# Altium integrated library Lattice CPLD ispMACH.IntLib: 663 symbols (part 31 of 48)
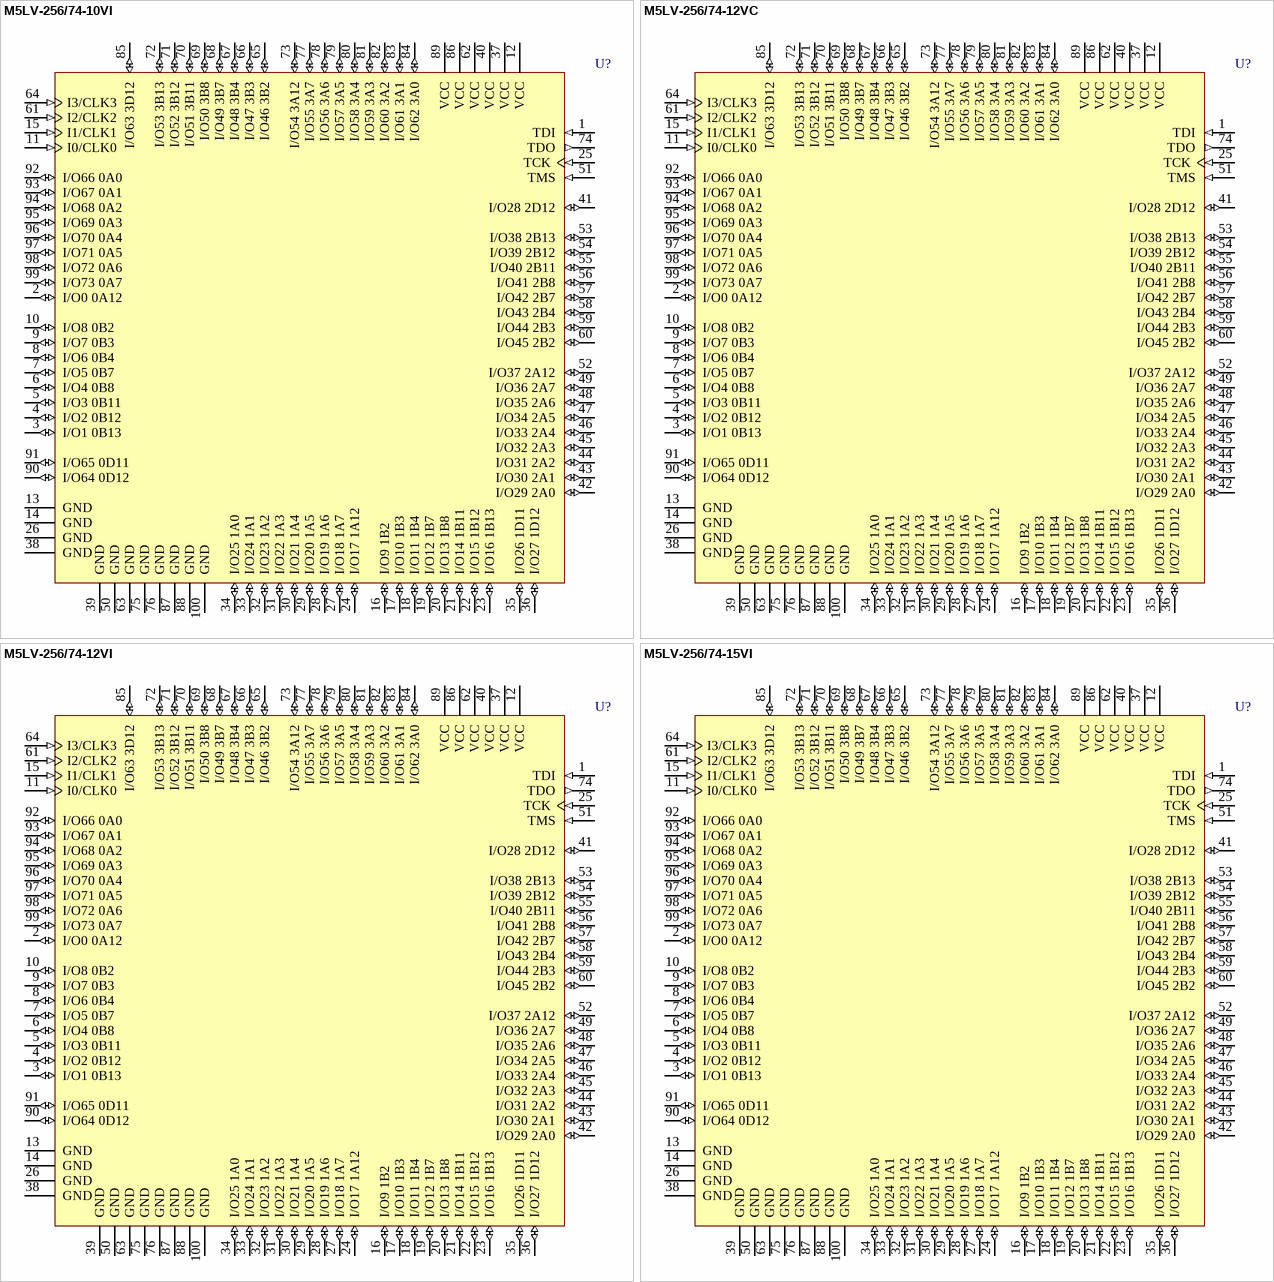
[diagram p336: symbols M5LV-256/74-10VI to M5LV-256/74-15VI]

## M5LV-256/74-10VI
designator U?
High-Density and High-I/O Complex PLD; Published: 23-Sep-2002; LatestRevisionDate: 13-Apr-2006; LatestRevisionNote: IPC-7351 Footprint Added.; DatasheetVersion: Sep-2000; PackageVersion: pkg_32, Aug-2005; PackageReference: TQFP100; Publisher: Altium Limited; PackageDescription: 100-Pin Thin Quad Flat Pack (TQFP100); Code_JEDEC: MS-026-BED; ComponentLink1Description: Manufacturer Link; ComponentLink1URL: http://www.latticesemi.com/products/mature/index.cfm; ComponentLink2Description: Datasheet; ComponentLink2URL: http://www.latticesemi.com/lit/docs/datasheets/cpld/mach5.pdf
footprint TQFP100_N (Thin QFP, 100-Leads, Body 14x14mm, Pitch 0.5mm, IPC Medium Density)
footprint TQFP100_L (Thin QFP, 100-Leads, Body 14x14mm, Pitch 0.5mm, IPC High Density)
footprint TQFP100_M (Thin QFP, 100-Leads, Body 14x14mm, Pitch 0.5mm, IPC Low Density)
3D model M5LV-TQFP100 (100-Pin Thin Quad Flat Pack (TQFP100))
pins: 1 TDI (in), 2 I/O0 0A12 (io), 3 I/O1 0B13 (io), 4 I/O2 0B12 (io), 5 I/O3 0B11 (io), 6 I/O4 0B8 (io), 7 I/O5 0B7 (io), 8 I/O6 0B4 (io), 9 I/O7 0B3 (io), 10 I/O8 0B2 (io), 11 I0/CLK0 (in), 12 VCC (power), 13 GND (power), 14 GND (power), 15 I1/CLK1 (in), 16 I/O9 1B2 (io), 17 I/O10 1B3 (io), 18 I/O11 1B4 (io), 19 I/O12 1B7 (io), 20 I/O13 1B8 (io), 21 I/O14 1B11 (io), 22 I/O15 1B12 (io), 23 I/O16 1B13 (io), 24 I/O17 1A12 (io), 25 TCK (in), 26 GND (power), 27 I/O18 1A7 (io), 28 I/O19 1A6 (io), 29 I/O20 1A5 (io), 30 I/O21 1A4 (io), 31 I/O22 1A3 (io), 32 I/O23 1A2 (io), 33 I/O24 1A1 (io), 34 I/O25 1A0 (io), 35 I/O26 1D11 (io), 36 I/O27 1D12 (io), 37 VCC (power), 38 GND (power), 39 GND (power), 40 VCC (power), 41 I/O28 2D12 (io), 42 I/O29 2A0 (io), 43 I/O30 2A1 (io), 44 I/O31 2A2 (io), 45 I/O32 2A3 (io), 46 I/O33 2A4 (io), 47 I/O34 2A5 (io), 48 I/O35 2A6 (io), 49 I/O36 2A7 (io), 50 GND (power), 51 TMS (in), 52 I/O37 2A12 (io), 53 I/O38 2B13 (io), 54 I/O39 2B12 (io), 55 I/O40 2B11 (io), 56 I/O41 2B8 (io), 57 I/O42 2B7 (io), 58 I/O43 2B4 (io), 59 I/O44 2B3 (io), 60 I/O45 2B2 (io), 61 I2/CLK2 (in), 62 VCC (power), 63 GND (power), 64 I3/CLK3 (in), 65 I/O46 3B2 (io), 66 I/O47 3B3 (io), 67 I/O48 3B4 (io), 68 I/O49 3B7 (io), 69 I/O50 3B8 (io), 70 I/O51 3B11 (io), 71 I/O52 3B12 (io), 72 I/O53 3B13 (io), 73 I/O54 3A12 (io), 74 TDO (out), 75 GND (power), 76 GND (power), 77 I/O55 3A7 (io), 78 I/O56 3A6 (io), 79 I/O57 3A5 (io), 80 I/O58 3A4 (io), 81 I/O59 3A3 (io), 82 I/O60 3A2 (io), 83 I/O61 3A1 (io), 84 I/O62 3A0 (io), 85 I/O63 3D12 (io), 86 VCC (power), 87 GND (power), 88 GND (power), 89 VCC (power), 90 I/O64 0D12 (io), 91 I/O65 0D11 (io), 92 I/O66 0A0 (io), 93 I/O67 0A1 (io), 94 I/O68 0A2 (io), 95 I/O69 0A3 (io), 96 I/O70 0A4 (io), 97 I/O71 0A5 (io), 98 I/O72 0A6 (io), 99 I/O73 0A7 (io), 100 GND (power)

## M5LV-256/74-12VC
designator U?
High-Density and High-I/O Complex PLD; Published: 23-Sep-2002; LatestRevisionDate: 13-Apr-2006; LatestRevisionNote: IPC-7351 Footprint Added.; DatasheetVersion: Sep-2000; PackageVersion: pkg_32, Aug-2005; PackageReference: TQFP100; Publisher: Altium Limited; PackageDescription: 100-Pin Thin Quad Flat Pack (TQFP100); Code_JEDEC: MS-026-BED; ComponentLink1Description: Manufacturer Link; ComponentLink1URL: http://www.latticesemi.com/products/mature/index.cfm; ComponentLink2Description: Datasheet; ComponentLink2URL: http://www.latticesemi.com/lit/docs/datasheets/cpld/mach5.pdf
footprint TQFP100_N (Thin QFP, 100-Leads, Body 14x14mm, Pitch 0.5mm, IPC Medium Density)
footprint TQFP100_L (Thin QFP, 100-Leads, Body 14x14mm, Pitch 0.5mm, IPC High Density)
footprint TQFP100_M (Thin QFP, 100-Leads, Body 14x14mm, Pitch 0.5mm, IPC Low Density)
3D model M5LV-TQFP100 (100-Pin Thin Quad Flat Pack (TQFP100))
pins: 1 TDI (in), 2 I/O0 0A12 (io), 3 I/O1 0B13 (io), 4 I/O2 0B12 (io), 5 I/O3 0B11 (io), 6 I/O4 0B8 (io), 7 I/O5 0B7 (io), 8 I/O6 0B4 (io), 9 I/O7 0B3 (io), 10 I/O8 0B2 (io), 11 I0/CLK0 (in), 12 VCC (power), 13 GND (power), 14 GND (power), 15 I1/CLK1 (in), 16 I/O9 1B2 (io), 17 I/O10 1B3 (io), 18 I/O11 1B4 (io), 19 I/O12 1B7 (io), 20 I/O13 1B8 (io), 21 I/O14 1B11 (io), 22 I/O15 1B12 (io), 23 I/O16 1B13 (io), 24 I/O17 1A12 (io), 25 TCK (in), 26 GND (power), 27 I/O18 1A7 (io), 28 I/O19 1A6 (io), 29 I/O20 1A5 (io), 30 I/O21 1A4 (io), 31 I/O22 1A3 (io), 32 I/O23 1A2 (io), 33 I/O24 1A1 (io), 34 I/O25 1A0 (io), 35 I/O26 1D11 (io), 36 I/O27 1D12 (io), 37 VCC (power), 38 GND (power), 39 GND (power), 40 VCC (power), 41 I/O28 2D12 (io), 42 I/O29 2A0 (io), 43 I/O30 2A1 (io), 44 I/O31 2A2 (io), 45 I/O32 2A3 (io), 46 I/O33 2A4 (io), 47 I/O34 2A5 (io), 48 I/O35 2A6 (io), 49 I/O36 2A7 (io), 50 GND (power), 51 TMS (in), 52 I/O37 2A12 (io), 53 I/O38 2B13 (io), 54 I/O39 2B12 (io), 55 I/O40 2B11 (io), 56 I/O41 2B8 (io), 57 I/O42 2B7 (io), 58 I/O43 2B4 (io), 59 I/O44 2B3 (io), 60 I/O45 2B2 (io), 61 I2/CLK2 (in), 62 VCC (power), 63 GND (power), 64 I3/CLK3 (in), 65 I/O46 3B2 (io), 66 I/O47 3B3 (io), 67 I/O48 3B4 (io), 68 I/O49 3B7 (io), 69 I/O50 3B8 (io), 70 I/O51 3B11 (io), 71 I/O52 3B12 (io), 72 I/O53 3B13 (io), 73 I/O54 3A12 (io), 74 TDO (out), 75 GND (power), 76 GND (power), 77 I/O55 3A7 (io), 78 I/O56 3A6 (io), 79 I/O57 3A5 (io), 80 I/O58 3A4 (io), 81 I/O59 3A3 (io), 82 I/O60 3A2 (io), 83 I/O61 3A1 (io), 84 I/O62 3A0 (io), 85 I/O63 3D12 (io), 86 VCC (power), 87 GND (power), 88 GND (power), 89 VCC (power), 90 I/O64 0D12 (io), 91 I/O65 0D11 (io), 92 I/O66 0A0 (io), 93 I/O67 0A1 (io), 94 I/O68 0A2 (io), 95 I/O69 0A3 (io), 96 I/O70 0A4 (io), 97 I/O71 0A5 (io), 98 I/O72 0A6 (io), 99 I/O73 0A7 (io), 100 GND (power)

## M5LV-256/74-12VI
designator U?
High-Density and High-I/O Complex PLD; Published: 23-Sep-2002; LatestRevisionDate: 13-Apr-2006; LatestRevisionNote: IPC-7351 Footprint Added.; DatasheetVersion: Sep-2000; PackageVersion: pkg_32, Aug-2005; PackageReference: TQFP100; Publisher: Altium Limited; PackageDescription: 100-Pin Thin Quad Flat Pack (TQFP100); Code_JEDEC: MS-026-BED; ComponentLink1Description: Manufacturer Link; ComponentLink1URL: http://www.latticesemi.com/products/mature/index.cfm; ComponentLink2Description: Datasheet; ComponentLink2URL: http://www.latticesemi.com/lit/docs/datasheets/cpld/mach5.pdf
footprint TQFP100_N (Thin QFP, 100-Leads, Body 14x14mm, Pitch 0.5mm, IPC Medium Density)
footprint TQFP100_L (Thin QFP, 100-Leads, Body 14x14mm, Pitch 0.5mm, IPC High Density)
footprint TQFP100_M (Thin QFP, 100-Leads, Body 14x14mm, Pitch 0.5mm, IPC Low Density)
3D model M5LV-TQFP100 (100-Pin Thin Quad Flat Pack (TQFP100))
pins: 1 TDI (in), 2 I/O0 0A12 (io), 3 I/O1 0B13 (io), 4 I/O2 0B12 (io), 5 I/O3 0B11 (io), 6 I/O4 0B8 (io), 7 I/O5 0B7 (io), 8 I/O6 0B4 (io), 9 I/O7 0B3 (io), 10 I/O8 0B2 (io), 11 I0/CLK0 (in), 12 VCC (power), 13 GND (power), 14 GND (power), 15 I1/CLK1 (in), 16 I/O9 1B2 (io), 17 I/O10 1B3 (io), 18 I/O11 1B4 (io), 19 I/O12 1B7 (io), 20 I/O13 1B8 (io), 21 I/O14 1B11 (io), 22 I/O15 1B12 (io), 23 I/O16 1B13 (io), 24 I/O17 1A12 (io), 25 TCK (in), 26 GND (power), 27 I/O18 1A7 (io), 28 I/O19 1A6 (io), 29 I/O20 1A5 (io), 30 I/O21 1A4 (io), 31 I/O22 1A3 (io), 32 I/O23 1A2 (io), 33 I/O24 1A1 (io), 34 I/O25 1A0 (io), 35 I/O26 1D11 (io), 36 I/O27 1D12 (io), 37 VCC (power), 38 GND (power), 39 GND (power), 40 VCC (power), 41 I/O28 2D12 (io), 42 I/O29 2A0 (io), 43 I/O30 2A1 (io), 44 I/O31 2A2 (io), 45 I/O32 2A3 (io), 46 I/O33 2A4 (io), 47 I/O34 2A5 (io), 48 I/O35 2A6 (io), 49 I/O36 2A7 (io), 50 GND (power), 51 TMS (in), 52 I/O37 2A12 (io), 53 I/O38 2B13 (io), 54 I/O39 2B12 (io), 55 I/O40 2B11 (io), 56 I/O41 2B8 (io), 57 I/O42 2B7 (io), 58 I/O43 2B4 (io), 59 I/O44 2B3 (io), 60 I/O45 2B2 (io), 61 I2/CLK2 (in), 62 VCC (power), 63 GND (power), 64 I3/CLK3 (in), 65 I/O46 3B2 (io), 66 I/O47 3B3 (io), 67 I/O48 3B4 (io), 68 I/O49 3B7 (io), 69 I/O50 3B8 (io), 70 I/O51 3B11 (io), 71 I/O52 3B12 (io), 72 I/O53 3B13 (io), 73 I/O54 3A12 (io), 74 TDO (out), 75 GND (power), 76 GND (power), 77 I/O55 3A7 (io), 78 I/O56 3A6 (io), 79 I/O57 3A5 (io), 80 I/O58 3A4 (io), 81 I/O59 3A3 (io), 82 I/O60 3A2 (io), 83 I/O61 3A1 (io), 84 I/O62 3A0 (io), 85 I/O63 3D12 (io), 86 VCC (power), 87 GND (power), 88 GND (power), 89 VCC (power), 90 I/O64 0D12 (io), 91 I/O65 0D11 (io), 92 I/O66 0A0 (io), 93 I/O67 0A1 (io), 94 I/O68 0A2 (io), 95 I/O69 0A3 (io), 96 I/O70 0A4 (io), 97 I/O71 0A5 (io), 98 I/O72 0A6 (io), 99 I/O73 0A7 (io), 100 GND (power)

## M5LV-256/74-15VI
designator U?
High-Density and High-I/O Complex PLD; Published: 23-Sep-2002; LatestRevisionDate: 13-Apr-2006; LatestRevisionNote: IPC-7351 Footprint Added.; DatasheetVersion: Sep-2000; PackageVersion: pkg_32, Aug-2005; PackageReference: TQFP100; Publisher: Altium Limited; PackageDescription: 100-Pin Thin Quad Flat Pack (TQFP100); Code_JEDEC: MS-026-BED; ComponentLink1Description: Manufacturer Link; ComponentLink1URL: http://www.latticesemi.com/products/mature/index.cfm; ComponentLink2Description: Datasheet; ComponentLink2URL: http://www.latticesemi.com/lit/docs/datasheets/cpld/mach5.pdf
footprint TQFP100_N (Thin QFP, 100-Leads, Body 14x14mm, Pitch 0.5mm, IPC Medium Density)
footprint TQFP100_L (Thin QFP, 100-Leads, Body 14x14mm, Pitch 0.5mm, IPC High Density)
footprint TQFP100_M (Thin QFP, 100-Leads, Body 14x14mm, Pitch 0.5mm, IPC Low Density)
3D model M5LV-TQFP100 (100-Pin Thin Quad Flat Pack (TQFP100))
pins: 1 TDI (in), 2 I/O0 0A12 (io), 3 I/O1 0B13 (io), 4 I/O2 0B12 (io), 5 I/O3 0B11 (io), 6 I/O4 0B8 (io), 7 I/O5 0B7 (io), 8 I/O6 0B4 (io), 9 I/O7 0B3 (io), 10 I/O8 0B2 (io), 11 I0/CLK0 (in), 12 VCC (power), 13 GND (power), 14 GND (power), 15 I1/CLK1 (in), 16 I/O9 1B2 (io), 17 I/O10 1B3 (io), 18 I/O11 1B4 (io), 19 I/O12 1B7 (io), 20 I/O13 1B8 (io), 21 I/O14 1B11 (io), 22 I/O15 1B12 (io), 23 I/O16 1B13 (io), 24 I/O17 1A12 (io), 25 TCK (in), 26 GND (power), 27 I/O18 1A7 (io), 28 I/O19 1A6 (io), 29 I/O20 1A5 (io), 30 I/O21 1A4 (io), 31 I/O22 1A3 (io), 32 I/O23 1A2 (io), 33 I/O24 1A1 (io), 34 I/O25 1A0 (io), 35 I/O26 1D11 (io), 36 I/O27 1D12 (io), 37 VCC (power), 38 GND (power), 39 GND (power), 40 VCC (power), 41 I/O28 2D12 (io), 42 I/O29 2A0 (io), 43 I/O30 2A1 (io), 44 I/O31 2A2 (io), 45 I/O32 2A3 (io), 46 I/O33 2A4 (io), 47 I/O34 2A5 (io), 48 I/O35 2A6 (io), 49 I/O36 2A7 (io), 50 GND (power), 51 TMS (in), 52 I/O37 2A12 (io), 53 I/O38 2B13 (io), 54 I/O39 2B12 (io), 55 I/O40 2B11 (io), 56 I/O41 2B8 (io), 57 I/O42 2B7 (io), 58 I/O43 2B4 (io), 59 I/O44 2B3 (io), 60 I/O45 2B2 (io), 61 I2/CLK2 (in), 62 VCC (power), 63 GND (power), 64 I3/CLK3 (in), 65 I/O46 3B2 (io), 66 I/O47 3B3 (io), 67 I/O48 3B4 (io), 68 I/O49 3B7 (io), 69 I/O50 3B8 (io), 70 I/O51 3B11 (io), 71 I/O52 3B12 (io), 72 I/O53 3B13 (io), 73 I/O54 3A12 (io), 74 TDO (out), 75 GND (power), 76 GND (power), 77 I/O55 3A7 (io), 78 I/O56 3A6 (io), 79 I/O57 3A5 (io), 80 I/O58 3A4 (io), 81 I/O59 3A3 (io), 82 I/O60 3A2 (io), 83 I/O61 3A1 (io), 84 I/O62 3A0 (io), 85 I/O63 3D12 (io), 86 VCC (power), 87 GND (power), 88 GND (power), 89 VCC (power), 90 I/O64 0D12 (io), 91 I/O65 0D11 (io), 92 I/O66 0A0 (io), 93 I/O67 0A1 (io), 94 I/O68 0A2 (io), 95 I/O69 0A3 (io), 96 I/O70 0A4 (io), 97 I/O71 0A5 (io), 98 I/O72 0A6 (io), 99 I/O73 0A7 (io), 100 GND (power)

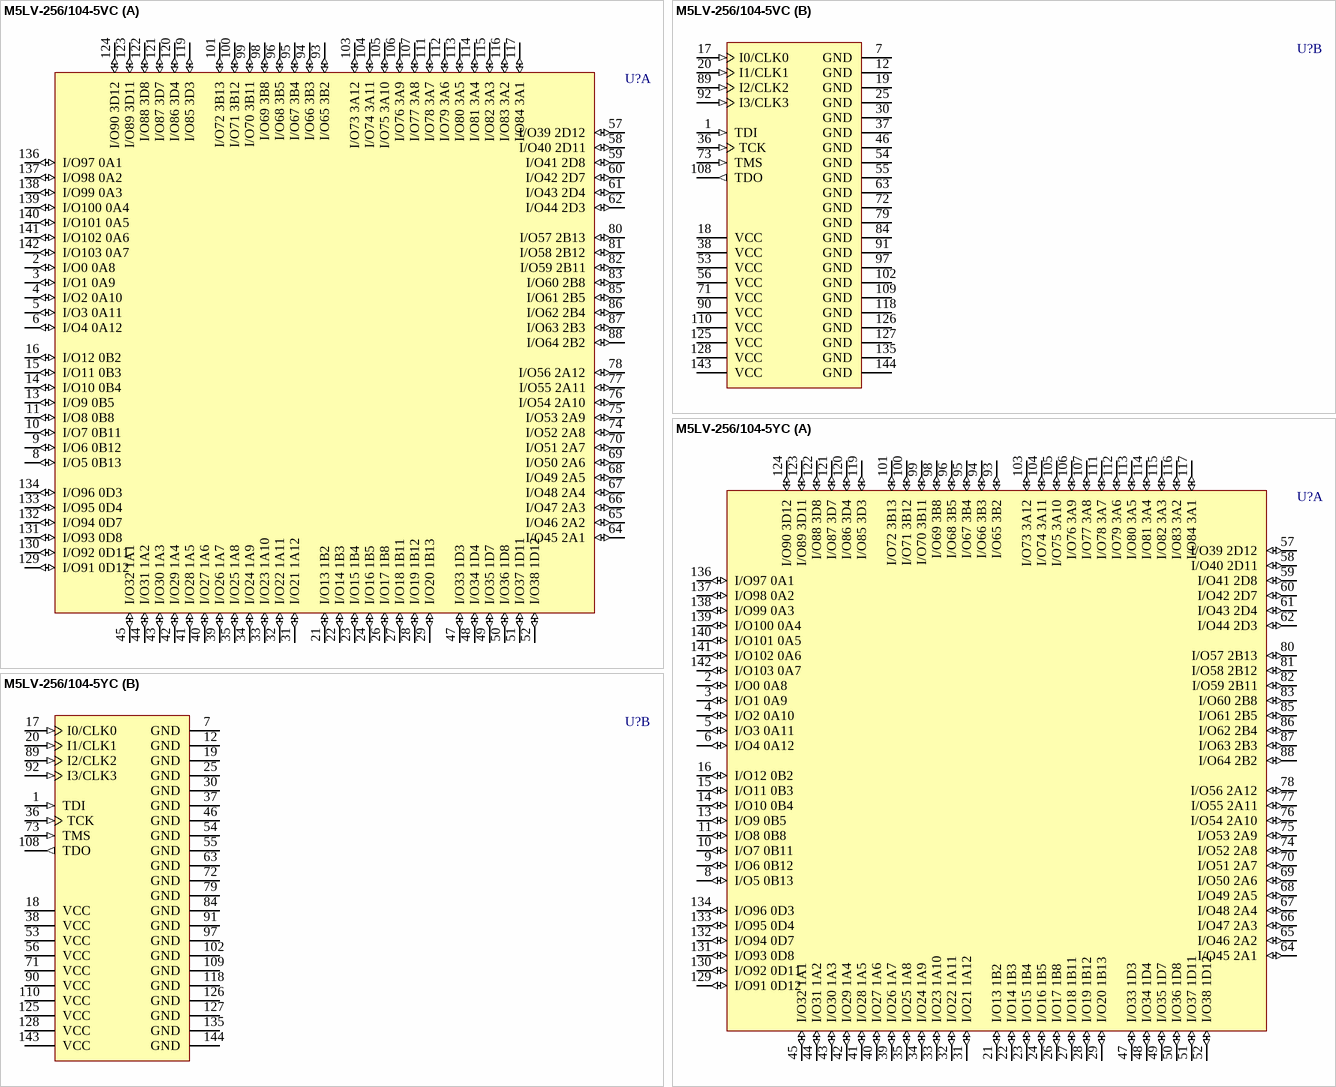
[diagram p179: symbols M5LV-256/104-5VC to M5LV-256/104-5YC]

## M5LV-256/104-5VC
designator U?
High-Density and High-I/O Complex PLD; Published: 23-Sep-2002; LatestRevisionDate: 13-Apr-2006; LatestRevisionNote: IPC-7351 Footprint Added.; DatasheetVersion: Sep-2000; PackageVersion: pkg_32, Aug-2005; PackageReference: TQFP144; Publisher: Altium Limited; PackageDescription: 144-Pin Thin Quad Flat Pack (TQFP144); Code_JEDEC: MS-026-BFB; ComponentLink1Description: Manufacturer Link; ComponentLink1URL: http://www.latticesemi.com/products/mature/index.cfm; ComponentLink2Description: Datasheet; ComponentLink2URL: http://www.latticesemi.com/lit/docs/datasheets/cpld/mach5.pdf
footprint TQFP144_N (Thin QFP, 144-Leads, Body 20x20mm, Pitch 0.5mm, IPC Medium Density)
footprint TQFP144_L (Thin QFP, 144-Leads, Body 20x20mm, Pitch 0.5mm, IPC High Density)
footprint TQFP144_M (Thin QFP, 144-Leads, Body 20x20mm, Pitch 0.5mm, IPC Low Density)
3D model M5LV-TQFP144 (144-Pin Thin Quad Flat Pack (TQFP144))
part A pins: 2 I/O0 0A8 (io), 3 I/O1 0A9 (io), 4 I/O2 0A10 (io), 5 I/O3 0A11 (io), 6 I/O4 0A12 (io), 8 I/O5 0B13 (io), 9 I/O6 0B12 (io), 10 I/O7 0B11 (io), 11 I/O8 0B8 (io), 13 I/O9 0B5 (io), 14 I/O10 0B4 (io), 15 I/O11 0B3 (io), 16 I/O12 0B2 (io), 21 I/O13 1B2 (io), 22 I/O14 1B3 (io), 23 I/O15 1B4 (io), 24 I/O16 1B5 (io), 26 I/O17 1B8 (io), 27 I/O18 1B11 (io), 28 I/O19 1B12 (io), 29 I/O20 1B13 (io), 31 I/O21 1A12 (io), 32 I/O22 1A11 (io), 33 I/O23 1A10 (io), 34 I/O24 1A9 (io), 35 I/O25 1A8 (io), 39 I/O26 1A7 (io), 40 I/O27 1A6 (io), 41 I/O28 1A5 (io), 42 I/O29 1A4 (io), 43 I/O30 1A3 (io), 44 I/O31 1A2 (io), 45 I/O32 1A1 (io), 47 I/O33 1D3 (io), 48 I/O34 1D4 (io), 49 I/O35 1D7 (io), 50 I/O36 1D8 (io), 51 I/O37 1D11 (io), 52 I/O38 1D12 (io), 57 I/O39 2D12 (io), 58 I/O40 2D11 (io), 59 I/O41 2D8 (io), 60 I/O42 2D7 (io), 61 I/O43 2D4 (io), 62 I/O44 2D3 (io), 64 I/O45 2A1 (io), 65 I/O46 2A2 (io), 66 I/O47 2A3 (io), 67 I/O48 2A4 (io), 68 I/O49 2A5 (io), 69 I/O50 2A6 (io), 70 I/O51 2A7 (io), 74 I/O52 2A8 (io), 75 I/O53 2A9 (io), 76 I/O54 2A10 (io), 77 I/O55 2A11 (io), 78 I/O56 2A12 (io), 80 I/O57 2B13 (io), 81 I/O58 2B12 (io), 82 I/O59 2B11 (io), 83 I/O60 2B8 (io), 85 I/O61 2B5 (io), 86 I/O62 2B4 (io), 87 I/O63 2B3 (io), 88 I/O64 2B2 (io), 93 I/O65 3B2 (io), 94 I/O66 3B3 (io), 95 I/O67 3B4 (io), 96 I/O68 3B5 (io), 98 I/O69 3B8 (io), 99 I/O70 3B11 (io), 100 I/O71 3B12 (io), 101 I/O72 3B13 (io), 103 I/O73 3A12 (io), 104 I/O74 3A11 (io), 105 I/O75 3A10 (io), 106 I/O76 3A9 (io), 107 I/O77 3A8 (io), 111 I/O78 3A7 (io), 112 I/O79 3A6 (io), 113 I/O80 3A5 (io), 114 I/O81 3A4 (io), 115 I/O82 3A3 (io), 116 I/O83 3A2 (io), 117 I/O84 3A1 (io), 119 I/O85 3D3 (io), 120 I/O86 3D4 (io), 121 I/O87 3D7 (io), 122 I/O88 3D8 (io), 123 I/O89 3D11 (io), 124 I/O90 3D12 (io), 129 I/O91 0D12 (io), 130 I/O92 0D11 (io), 131 I/O93 0D8 (io), 132 I/O94 0D7 (io), 133 I/O95 0D4 (io), 134 I/O96 0D3 (io), 136 I/O97 0A1 (io), 137 I/O98 0A2 (io), 138 I/O99 0A3 (io), 139 I/O100 0A4 (io), 140 I/O101 0A5 (io), 141 I/O102 0A6 (io), 142 I/O103 0A7 (io)
part B pins: 1 TDI (in), 7 GND (power), 12 GND (power), 17 I0/CLK0 (in), 18 VCC (power), 19 GND (power), 20 I1/CLK1 (in), 25 GND (power), 30 GND (power), 36 TCK (in), 37 GND (power), 38 VCC (power), 46 GND (power), 53 VCC (power), 54 GND (power), 55 GND (power), 56 VCC (power), 63 GND (power), 71 VCC (power), 72 GND (power), 73 TMS (in), 79 GND (power), 84 GND (power), 89 I2/CLK2 (in), 90 VCC (power), 91 GND (power), 92 I3/CLK3 (in), 97 GND (power), 102 GND (power), 108 TDO (out), 109 GND (power), 110 VCC (power), 118 GND (power), 125 VCC (power), 126 GND (power), 127 GND (power), 128 VCC (power), 135 GND (power), 143 VCC (power), 144 GND (power)

## M5LV-256/104-5YC
designator U?
High-Density and High-I/O Complex PLD; Published: 23-Sep-2002; LatestRevisionDate: 13-Apr-2006; LatestRevisionNote: IPC-7351 Footprint Added.; DatasheetVersion: Sep-2000; PackageVersion: pkg_32, Aug-2005; PackageReference: PQFP144; Publisher: Altium Limited; PackageDescription: 144-Pin Quad Flat Pack 0.65 mm Pitch; Code_IPC: QFP65P3120X3120-144; ComponentLink1Description: Manufacturer Link; ComponentLink1URL: http://www.latticesemi.com/products/mature/index.cfm; ComponentLink2Description: Datasheet; ComponentLink2URL: http://www.latticesemi.com/lit/docs/datasheets/cpld/mach5.pdf
footprint PQFP144_N (QFP, 144-Leads, Body 28 x 28mm, Pitch 0.65mm, IPC Medium Density)
footprint PQFP144_L (QFP, 144-Leads, Body 28 x 28mm, Pitch 0.65mm, IPC High Density)
footprint PQFP144_M (QFP, 144-Leads, Body 28 x 28mm, Pitch 0.65mm, IPC Low Density)
3D model M5LV-PQFP144 (144-Pin Quad Flat Pack 0.65 mm Pitch)
part A pins: 2 I/O0 0A8 (io), 3 I/O1 0A9 (io), 4 I/O2 0A10 (io), 5 I/O3 0A11 (io), 6 I/O4 0A12 (io), 8 I/O5 0B13 (io), 9 I/O6 0B12 (io), 10 I/O7 0B11 (io), 11 I/O8 0B8 (io), 13 I/O9 0B5 (io), 14 I/O10 0B4 (io), 15 I/O11 0B3 (io), 16 I/O12 0B2 (io), 21 I/O13 1B2 (io), 22 I/O14 1B3 (io), 23 I/O15 1B4 (io), 24 I/O16 1B5 (io), 26 I/O17 1B8 (io), 27 I/O18 1B11 (io), 28 I/O19 1B12 (io), 29 I/O20 1B13 (io), 31 I/O21 1A12 (io), 32 I/O22 1A11 (io), 33 I/O23 1A10 (io), 34 I/O24 1A9 (io), 35 I/O25 1A8 (io), 39 I/O26 1A7 (io), 40 I/O27 1A6 (io), 41 I/O28 1A5 (io), 42 I/O29 1A4 (io), 43 I/O30 1A3 (io), 44 I/O31 1A2 (io), 45 I/O32 1A1 (io), 47 I/O33 1D3 (io), 48 I/O34 1D4 (io), 49 I/O35 1D7 (io), 50 I/O36 1D8 (io), 51 I/O37 1D11 (io), 52 I/O38 1D12 (io), 57 I/O39 2D12 (io), 58 I/O40 2D11 (io), 59 I/O41 2D8 (io), 60 I/O42 2D7 (io), 61 I/O43 2D4 (io), 62 I/O44 2D3 (io), 64 I/O45 2A1 (io), 65 I/O46 2A2 (io), 66 I/O47 2A3 (io), 67 I/O48 2A4 (io), 68 I/O49 2A5 (io), 69 I/O50 2A6 (io), 70 I/O51 2A7 (io), 74 I/O52 2A8 (io), 75 I/O53 2A9 (io), 76 I/O54 2A10 (io), 77 I/O55 2A11 (io), 78 I/O56 2A12 (io), 80 I/O57 2B13 (io), 81 I/O58 2B12 (io), 82 I/O59 2B11 (io), 83 I/O60 2B8 (io), 85 I/O61 2B5 (io), 86 I/O62 2B4 (io), 87 I/O63 2B3 (io), 88 I/O64 2B2 (io), 93 I/O65 3B2 (io), 94 I/O66 3B3 (io), 95 I/O67 3B4 (io), 96 I/O68 3B5 (io), 98 I/O69 3B8 (io), 99 I/O70 3B11 (io), 100 I/O71 3B12 (io), 101 I/O72 3B13 (io), 103 I/O73 3A12 (io), 104 I/O74 3A11 (io), 105 I/O75 3A10 (io), 106 I/O76 3A9 (io), 107 I/O77 3A8 (io), 111 I/O78 3A7 (io), 112 I/O79 3A6 (io), 113 I/O80 3A5 (io), 114 I/O81 3A4 (io), 115 I/O82 3A3 (io), 116 I/O83 3A2 (io), 117 I/O84 3A1 (io), 119 I/O85 3D3 (io), 120 I/O86 3D4 (io), 121 I/O87 3D7 (io), 122 I/O88 3D8 (io), 123 I/O89 3D11 (io), 124 I/O90 3D12 (io), 129 I/O91 0D12 (io), 130 I/O92 0D11 (io), 131 I/O93 0D8 (io), 132 I/O94 0D7 (io), 133 I/O95 0D4 (io), 134 I/O96 0D3 (io), 136 I/O97 0A1 (io), 137 I/O98 0A2 (io), 138 I/O99 0A3 (io), 139 I/O100 0A4 (io), 140 I/O101 0A5 (io), 141 I/O102 0A6 (io), 142 I/O103 0A7 (io)
part B pins: 1 TDI (in), 7 GND (power), 12 GND (power), 17 I0/CLK0 (in), 18 VCC (power), 19 GND (power), 20 I1/CLK1 (in), 25 GND (power), 30 GND (power), 36 TCK (in), 37 GND (power), 38 VCC (power), 46 GND (power), 53 VCC (power), 54 GND (power), 55 GND (power), 56 VCC (power), 63 GND (power), 71 VCC (power), 72 GND (power), 73 TMS (in), 79 GND (power), 84 GND (power), 89 I2/CLK2 (in), 90 VCC (power), 91 GND (power), 92 I3/CLK3 (in), 97 GND (power), 102 GND (power), 108 TDO (out), 109 GND (power), 110 VCC (power), 118 GND (power), 125 VCC (power), 126 GND (power), 127 GND (power), 128 VCC (power), 135 GND (power), 143 VCC (power), 144 GND (power)

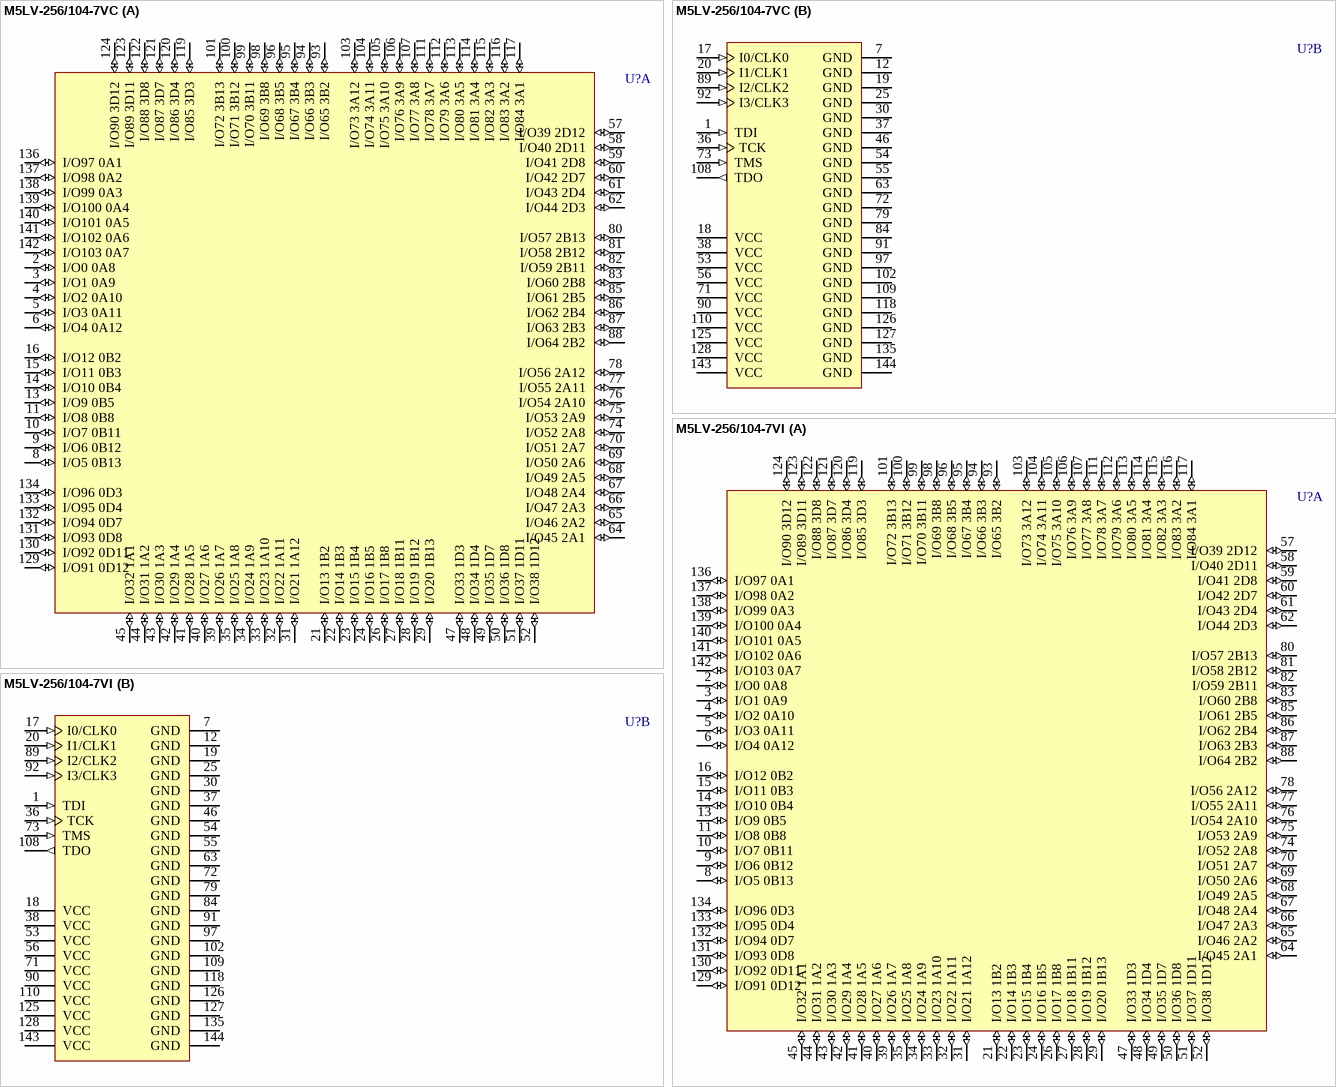
[diagram p180: symbols M5LV-256/104-7VC to M5LV-256/104-7VI]

## M5LV-256/104-7VC
designator U?
High-Density and High-I/O Complex PLD; Published: 23-Sep-2002; LatestRevisionDate: 13-Apr-2006; LatestRevisionNote: IPC-7351 Footprint Added.; DatasheetVersion: Sep-2000; PackageVersion: pkg_32, Aug-2005; PackageReference: TQFP144; Publisher: Altium Limited; PackageDescription: 144-Pin Thin Quad Flat Pack (TQFP144); Code_JEDEC: MS-026-BFB; ComponentLink1Description: Manufacturer Link; ComponentLink1URL: http://www.latticesemi.com/products/mature/index.cfm; ComponentLink2Description: Datasheet; ComponentLink2URL: http://www.latticesemi.com/lit/docs/datasheets/cpld/mach5.pdf
footprint TQFP144_N (Thin QFP, 144-Leads, Body 20x20mm, Pitch 0.5mm, IPC Medium Density)
footprint TQFP144_L (Thin QFP, 144-Leads, Body 20x20mm, Pitch 0.5mm, IPC High Density)
footprint TQFP144_M (Thin QFP, 144-Leads, Body 20x20mm, Pitch 0.5mm, IPC Low Density)
3D model M5LV-TQFP144 (144-Pin Thin Quad Flat Pack (TQFP144))
part A pins: 2 I/O0 0A8 (io), 3 I/O1 0A9 (io), 4 I/O2 0A10 (io), 5 I/O3 0A11 (io), 6 I/O4 0A12 (io), 8 I/O5 0B13 (io), 9 I/O6 0B12 (io), 10 I/O7 0B11 (io), 11 I/O8 0B8 (io), 13 I/O9 0B5 (io), 14 I/O10 0B4 (io), 15 I/O11 0B3 (io), 16 I/O12 0B2 (io), 21 I/O13 1B2 (io), 22 I/O14 1B3 (io), 23 I/O15 1B4 (io), 24 I/O16 1B5 (io), 26 I/O17 1B8 (io), 27 I/O18 1B11 (io), 28 I/O19 1B12 (io), 29 I/O20 1B13 (io), 31 I/O21 1A12 (io), 32 I/O22 1A11 (io), 33 I/O23 1A10 (io), 34 I/O24 1A9 (io), 35 I/O25 1A8 (io), 39 I/O26 1A7 (io), 40 I/O27 1A6 (io), 41 I/O28 1A5 (io), 42 I/O29 1A4 (io), 43 I/O30 1A3 (io), 44 I/O31 1A2 (io), 45 I/O32 1A1 (io), 47 I/O33 1D3 (io), 48 I/O34 1D4 (io), 49 I/O35 1D7 (io), 50 I/O36 1D8 (io), 51 I/O37 1D11 (io), 52 I/O38 1D12 (io), 57 I/O39 2D12 (io), 58 I/O40 2D11 (io), 59 I/O41 2D8 (io), 60 I/O42 2D7 (io), 61 I/O43 2D4 (io), 62 I/O44 2D3 (io), 64 I/O45 2A1 (io), 65 I/O46 2A2 (io), 66 I/O47 2A3 (io), 67 I/O48 2A4 (io), 68 I/O49 2A5 (io), 69 I/O50 2A6 (io), 70 I/O51 2A7 (io), 74 I/O52 2A8 (io), 75 I/O53 2A9 (io), 76 I/O54 2A10 (io), 77 I/O55 2A11 (io), 78 I/O56 2A12 (io), 80 I/O57 2B13 (io), 81 I/O58 2B12 (io), 82 I/O59 2B11 (io), 83 I/O60 2B8 (io), 85 I/O61 2B5 (io), 86 I/O62 2B4 (io), 87 I/O63 2B3 (io), 88 I/O64 2B2 (io), 93 I/O65 3B2 (io), 94 I/O66 3B3 (io), 95 I/O67 3B4 (io), 96 I/O68 3B5 (io), 98 I/O69 3B8 (io), 99 I/O70 3B11 (io), 100 I/O71 3B12 (io), 101 I/O72 3B13 (io), 103 I/O73 3A12 (io), 104 I/O74 3A11 (io), 105 I/O75 3A10 (io), 106 I/O76 3A9 (io), 107 I/O77 3A8 (io), 111 I/O78 3A7 (io), 112 I/O79 3A6 (io), 113 I/O80 3A5 (io), 114 I/O81 3A4 (io), 115 I/O82 3A3 (io), 116 I/O83 3A2 (io), 117 I/O84 3A1 (io), 119 I/O85 3D3 (io), 120 I/O86 3D4 (io), 121 I/O87 3D7 (io), 122 I/O88 3D8 (io), 123 I/O89 3D11 (io), 124 I/O90 3D12 (io), 129 I/O91 0D12 (io), 130 I/O92 0D11 (io), 131 I/O93 0D8 (io), 132 I/O94 0D7 (io), 133 I/O95 0D4 (io), 134 I/O96 0D3 (io), 136 I/O97 0A1 (io), 137 I/O98 0A2 (io), 138 I/O99 0A3 (io), 139 I/O100 0A4 (io), 140 I/O101 0A5 (io), 141 I/O102 0A6 (io), 142 I/O103 0A7 (io)
part B pins: 1 TDI (in), 7 GND (power), 12 GND (power), 17 I0/CLK0 (in), 18 VCC (power), 19 GND (power), 20 I1/CLK1 (in), 25 GND (power), 30 GND (power), 36 TCK (in), 37 GND (power), 38 VCC (power), 46 GND (power), 53 VCC (power), 54 GND (power), 55 GND (power), 56 VCC (power), 63 GND (power), 71 VCC (power), 72 GND (power), 73 TMS (in), 79 GND (power), 84 GND (power), 89 I2/CLK2 (in), 90 VCC (power), 91 GND (power), 92 I3/CLK3 (in), 97 GND (power), 102 GND (power), 108 TDO (out), 109 GND (power), 110 VCC (power), 118 GND (power), 125 VCC (power), 126 GND (power), 127 GND (power), 128 VCC (power), 135 GND (power), 143 VCC (power), 144 GND (power)

## M5LV-256/104-7VI
designator U?
High-Density and High-I/O Complex PLD; Published: 23-Sep-2002; LatestRevisionDate: 13-Apr-2006; LatestRevisionNote: IPC-7351 Footprint Added.; DatasheetVersion: Sep-2000; PackageVersion: pkg_32, Aug-2005; PackageReference: TQFP144; Publisher: Altium Limited; PackageDescription: 144-Pin Thin Quad Flat Pack (TQFP144); Code_JEDEC: MS-026-BFB; ComponentLink1Description: Manufacturer Link; ComponentLink1URL: http://www.latticesemi.com/products/mature/index.cfm; ComponentLink2Description: Datasheet; ComponentLink2URL: http://www.latticesemi.com/lit/docs/datasheets/cpld/mach5.pdf
footprint TQFP144_N (Thin QFP, 144-Leads, Body 20x20mm, Pitch 0.5mm, IPC Medium Density)
footprint TQFP144_L (Thin QFP, 144-Leads, Body 20x20mm, Pitch 0.5mm, IPC High Density)
footprint TQFP144_M (Thin QFP, 144-Leads, Body 20x20mm, Pitch 0.5mm, IPC Low Density)
3D model M5LV-TQFP144 (144-Pin Thin Quad Flat Pack (TQFP144))
part A pins: 2 I/O0 0A8 (io), 3 I/O1 0A9 (io), 4 I/O2 0A10 (io), 5 I/O3 0A11 (io), 6 I/O4 0A12 (io), 8 I/O5 0B13 (io), 9 I/O6 0B12 (io), 10 I/O7 0B11 (io), 11 I/O8 0B8 (io), 13 I/O9 0B5 (io), 14 I/O10 0B4 (io), 15 I/O11 0B3 (io), 16 I/O12 0B2 (io), 21 I/O13 1B2 (io), 22 I/O14 1B3 (io), 23 I/O15 1B4 (io), 24 I/O16 1B5 (io), 26 I/O17 1B8 (io), 27 I/O18 1B11 (io), 28 I/O19 1B12 (io), 29 I/O20 1B13 (io), 31 I/O21 1A12 (io), 32 I/O22 1A11 (io), 33 I/O23 1A10 (io), 34 I/O24 1A9 (io), 35 I/O25 1A8 (io), 39 I/O26 1A7 (io), 40 I/O27 1A6 (io), 41 I/O28 1A5 (io), 42 I/O29 1A4 (io), 43 I/O30 1A3 (io), 44 I/O31 1A2 (io), 45 I/O32 1A1 (io), 47 I/O33 1D3 (io), 48 I/O34 1D4 (io), 49 I/O35 1D7 (io), 50 I/O36 1D8 (io), 51 I/O37 1D11 (io), 52 I/O38 1D12 (io), 57 I/O39 2D12 (io), 58 I/O40 2D11 (io), 59 I/O41 2D8 (io), 60 I/O42 2D7 (io), 61 I/O43 2D4 (io), 62 I/O44 2D3 (io), 64 I/O45 2A1 (io), 65 I/O46 2A2 (io), 66 I/O47 2A3 (io), 67 I/O48 2A4 (io), 68 I/O49 2A5 (io), 69 I/O50 2A6 (io), 70 I/O51 2A7 (io), 74 I/O52 2A8 (io), 75 I/O53 2A9 (io), 76 I/O54 2A10 (io), 77 I/O55 2A11 (io), 78 I/O56 2A12 (io), 80 I/O57 2B13 (io), 81 I/O58 2B12 (io), 82 I/O59 2B11 (io), 83 I/O60 2B8 (io), 85 I/O61 2B5 (io), 86 I/O62 2B4 (io), 87 I/O63 2B3 (io), 88 I/O64 2B2 (io), 93 I/O65 3B2 (io), 94 I/O66 3B3 (io), 95 I/O67 3B4 (io), 96 I/O68 3B5 (io), 98 I/O69 3B8 (io), 99 I/O70 3B11 (io), 100 I/O71 3B12 (io), 101 I/O72 3B13 (io), 103 I/O73 3A12 (io), 104 I/O74 3A11 (io), 105 I/O75 3A10 (io), 106 I/O76 3A9 (io), 107 I/O77 3A8 (io), 111 I/O78 3A7 (io), 112 I/O79 3A6 (io), 113 I/O80 3A5 (io), 114 I/O81 3A4 (io), 115 I/O82 3A3 (io), 116 I/O83 3A2 (io), 117 I/O84 3A1 (io), 119 I/O85 3D3 (io), 120 I/O86 3D4 (io), 121 I/O87 3D7 (io), 122 I/O88 3D8 (io), 123 I/O89 3D11 (io), 124 I/O90 3D12 (io), 129 I/O91 0D12 (io), 130 I/O92 0D11 (io), 131 I/O93 0D8 (io), 132 I/O94 0D7 (io), 133 I/O95 0D4 (io), 134 I/O96 0D3 (io), 136 I/O97 0A1 (io), 137 I/O98 0A2 (io), 138 I/O99 0A3 (io), 139 I/O100 0A4 (io), 140 I/O101 0A5 (io), 141 I/O102 0A6 (io), 142 I/O103 0A7 (io)
part B pins: 1 TDI (in), 7 GND (power), 12 GND (power), 17 I0/CLK0 (in), 18 VCC (power), 19 GND (power), 20 I1/CLK1 (in), 25 GND (power), 30 GND (power), 36 TCK (in), 37 GND (power), 38 VCC (power), 46 GND (power), 53 VCC (power), 54 GND (power), 55 GND (power), 56 VCC (power), 63 GND (power), 71 VCC (power), 72 GND (power), 73 TMS (in), 79 GND (power), 84 GND (power), 89 I2/CLK2 (in), 90 VCC (power), 91 GND (power), 92 I3/CLK3 (in), 97 GND (power), 102 GND (power), 108 TDO (out), 109 GND (power), 110 VCC (power), 118 GND (power), 125 VCC (power), 126 GND (power), 127 GND (power), 128 VCC (power), 135 GND (power), 143 VCC (power), 144 GND (power)

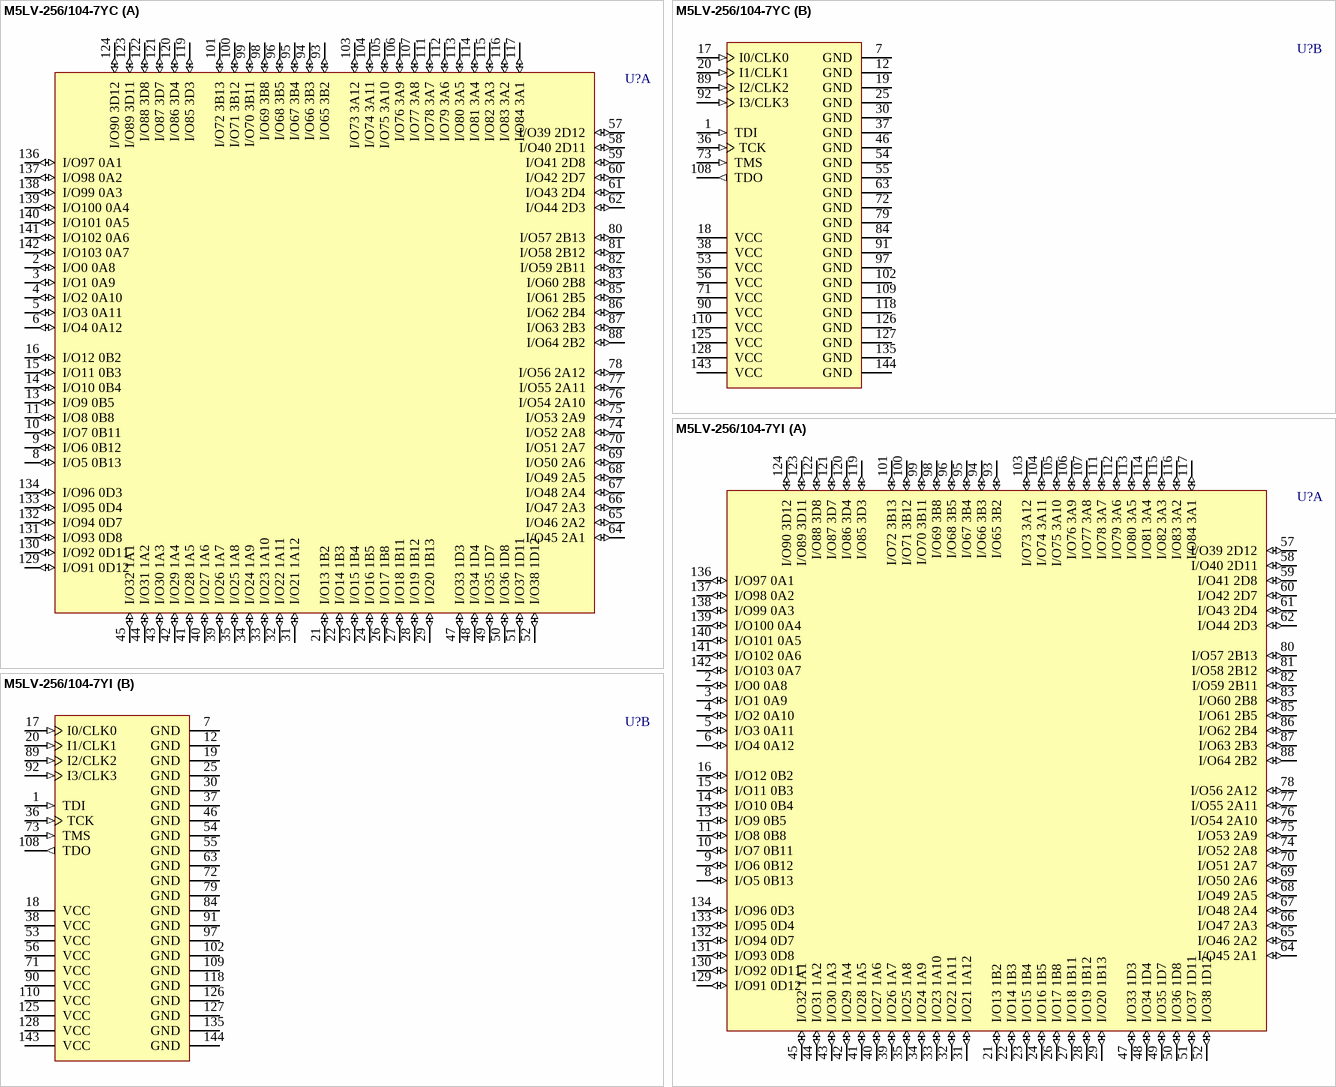
[diagram p181: symbols M5LV-256/104-7YC to M5LV-256/104-7YI]

## M5LV-256/104-7YC
designator U?
High-Density and High-I/O Complex PLD; Published: 23-Sep-2002; LatestRevisionDate: 13-Apr-2006; LatestRevisionNote: IPC-7351 Footprint Added.; DatasheetVersion: Sep-2000; PackageVersion: pkg_32, Aug-2005; PackageReference: PQFP144; Publisher: Altium Limited; PackageDescription: 144-Pin Quad Flat Pack 0.65 mm Pitch; Code_IPC: QFP65P3120X3120-144; ComponentLink1Description: Manufacturer Link; ComponentLink1URL: http://www.latticesemi.com/products/mature/index.cfm; ComponentLink2Description: Datasheet; ComponentLink2URL: http://www.latticesemi.com/lit/docs/datasheets/cpld/mach5.pdf
footprint PQFP144_N (QFP, 144-Leads, Body 28 x 28mm, Pitch 0.65mm, IPC Medium Density)
footprint PQFP144_L (QFP, 144-Leads, Body 28 x 28mm, Pitch 0.65mm, IPC High Density)
footprint PQFP144_M (QFP, 144-Leads, Body 28 x 28mm, Pitch 0.65mm, IPC Low Density)
3D model M5LV-PQFP144 (144-Pin Quad Flat Pack 0.65 mm Pitch)
part A pins: 2 I/O0 0A8 (io), 3 I/O1 0A9 (io), 4 I/O2 0A10 (io), 5 I/O3 0A11 (io), 6 I/O4 0A12 (io), 8 I/O5 0B13 (io), 9 I/O6 0B12 (io), 10 I/O7 0B11 (io), 11 I/O8 0B8 (io), 13 I/O9 0B5 (io), 14 I/O10 0B4 (io), 15 I/O11 0B3 (io), 16 I/O12 0B2 (io), 21 I/O13 1B2 (io), 22 I/O14 1B3 (io), 23 I/O15 1B4 (io), 24 I/O16 1B5 (io), 26 I/O17 1B8 (io), 27 I/O18 1B11 (io), 28 I/O19 1B12 (io), 29 I/O20 1B13 (io), 31 I/O21 1A12 (io), 32 I/O22 1A11 (io), 33 I/O23 1A10 (io), 34 I/O24 1A9 (io), 35 I/O25 1A8 (io), 39 I/O26 1A7 (io), 40 I/O27 1A6 (io), 41 I/O28 1A5 (io), 42 I/O29 1A4 (io), 43 I/O30 1A3 (io), 44 I/O31 1A2 (io), 45 I/O32 1A1 (io), 47 I/O33 1D3 (io), 48 I/O34 1D4 (io), 49 I/O35 1D7 (io), 50 I/O36 1D8 (io), 51 I/O37 1D11 (io), 52 I/O38 1D12 (io), 57 I/O39 2D12 (io), 58 I/O40 2D11 (io), 59 I/O41 2D8 (io), 60 I/O42 2D7 (io), 61 I/O43 2D4 (io), 62 I/O44 2D3 (io), 64 I/O45 2A1 (io), 65 I/O46 2A2 (io), 66 I/O47 2A3 (io), 67 I/O48 2A4 (io), 68 I/O49 2A5 (io), 69 I/O50 2A6 (io), 70 I/O51 2A7 (io), 74 I/O52 2A8 (io), 75 I/O53 2A9 (io), 76 I/O54 2A10 (io), 77 I/O55 2A11 (io), 78 I/O56 2A12 (io), 80 I/O57 2B13 (io), 81 I/O58 2B12 (io), 82 I/O59 2B11 (io), 83 I/O60 2B8 (io), 85 I/O61 2B5 (io), 86 I/O62 2B4 (io), 87 I/O63 2B3 (io), 88 I/O64 2B2 (io), 93 I/O65 3B2 (io), 94 I/O66 3B3 (io), 95 I/O67 3B4 (io), 96 I/O68 3B5 (io), 98 I/O69 3B8 (io), 99 I/O70 3B11 (io), 100 I/O71 3B12 (io), 101 I/O72 3B13 (io), 103 I/O73 3A12 (io), 104 I/O74 3A11 (io), 105 I/O75 3A10 (io), 106 I/O76 3A9 (io), 107 I/O77 3A8 (io), 111 I/O78 3A7 (io), 112 I/O79 3A6 (io), 113 I/O80 3A5 (io), 114 I/O81 3A4 (io), 115 I/O82 3A3 (io), 116 I/O83 3A2 (io), 117 I/O84 3A1 (io), 119 I/O85 3D3 (io), 120 I/O86 3D4 (io), 121 I/O87 3D7 (io), 122 I/O88 3D8 (io), 123 I/O89 3D11 (io), 124 I/O90 3D12 (io), 129 I/O91 0D12 (io), 130 I/O92 0D11 (io), 131 I/O93 0D8 (io), 132 I/O94 0D7 (io), 133 I/O95 0D4 (io), 134 I/O96 0D3 (io), 136 I/O97 0A1 (io), 137 I/O98 0A2 (io), 138 I/O99 0A3 (io), 139 I/O100 0A4 (io), 140 I/O101 0A5 (io), 141 I/O102 0A6 (io), 142 I/O103 0A7 (io)
part B pins: 1 TDI (in), 7 GND (power), 12 GND (power), 17 I0/CLK0 (in), 18 VCC (power), 19 GND (power), 20 I1/CLK1 (in), 25 GND (power), 30 GND (power), 36 TCK (in), 37 GND (power), 38 VCC (power), 46 GND (power), 53 VCC (power), 54 GND (power), 55 GND (power), 56 VCC (power), 63 GND (power), 71 VCC (power), 72 GND (power), 73 TMS (in), 79 GND (power), 84 GND (power), 89 I2/CLK2 (in), 90 VCC (power), 91 GND (power), 92 I3/CLK3 (in), 97 GND (power), 102 GND (power), 108 TDO (out), 109 GND (power), 110 VCC (power), 118 GND (power), 125 VCC (power), 126 GND (power), 127 GND (power), 128 VCC (power), 135 GND (power), 143 VCC (power), 144 GND (power)

## M5LV-256/104-7YI
designator U?
High-Density and High-I/O Complex PLD; Published: 23-Sep-2002; LatestRevisionDate: 13-Apr-2006; LatestRevisionNote: IPC-7351 Footprint Added.; DatasheetVersion: Sep-2000; PackageVersion: pkg_32, Aug-2005; PackageReference: PQFP144; Publisher: Altium Limited; PackageDescription: 144-Pin Quad Flat Pack 0.65 mm Pitch; Code_IPC: QFP65P3120X3120-144; ComponentLink1Description: Manufacturer Link; ComponentLink1URL: http://www.latticesemi.com/products/mature/index.cfm; ComponentLink2Description: Datasheet; ComponentLink2URL: http://www.latticesemi.com/lit/docs/datasheets/cpld/mach5.pdf
footprint PQFP144_N (QFP, 144-Leads, Body 28 x 28mm, Pitch 0.65mm, IPC Medium Density)
footprint PQFP144_L (QFP, 144-Leads, Body 28 x 28mm, Pitch 0.65mm, IPC High Density)
footprint PQFP144_M (QFP, 144-Leads, Body 28 x 28mm, Pitch 0.65mm, IPC Low Density)
3D model M5LV-PQFP144 (144-Pin Quad Flat Pack 0.65 mm Pitch)
part A pins: 2 I/O0 0A8 (io), 3 I/O1 0A9 (io), 4 I/O2 0A10 (io), 5 I/O3 0A11 (io), 6 I/O4 0A12 (io), 8 I/O5 0B13 (io), 9 I/O6 0B12 (io), 10 I/O7 0B11 (io), 11 I/O8 0B8 (io), 13 I/O9 0B5 (io), 14 I/O10 0B4 (io), 15 I/O11 0B3 (io), 16 I/O12 0B2 (io), 21 I/O13 1B2 (io), 22 I/O14 1B3 (io), 23 I/O15 1B4 (io), 24 I/O16 1B5 (io), 26 I/O17 1B8 (io), 27 I/O18 1B11 (io), 28 I/O19 1B12 (io), 29 I/O20 1B13 (io), 31 I/O21 1A12 (io), 32 I/O22 1A11 (io), 33 I/O23 1A10 (io), 34 I/O24 1A9 (io), 35 I/O25 1A8 (io), 39 I/O26 1A7 (io), 40 I/O27 1A6 (io), 41 I/O28 1A5 (io), 42 I/O29 1A4 (io), 43 I/O30 1A3 (io), 44 I/O31 1A2 (io), 45 I/O32 1A1 (io), 47 I/O33 1D3 (io), 48 I/O34 1D4 (io), 49 I/O35 1D7 (io), 50 I/O36 1D8 (io), 51 I/O37 1D11 (io), 52 I/O38 1D12 (io), 57 I/O39 2D12 (io), 58 I/O40 2D11 (io), 59 I/O41 2D8 (io), 60 I/O42 2D7 (io), 61 I/O43 2D4 (io), 62 I/O44 2D3 (io), 64 I/O45 2A1 (io), 65 I/O46 2A2 (io), 66 I/O47 2A3 (io), 67 I/O48 2A4 (io), 68 I/O49 2A5 (io), 69 I/O50 2A6 (io), 70 I/O51 2A7 (io), 74 I/O52 2A8 (io), 75 I/O53 2A9 (io), 76 I/O54 2A10 (io), 77 I/O55 2A11 (io), 78 I/O56 2A12 (io), 80 I/O57 2B13 (io), 81 I/O58 2B12 (io), 82 I/O59 2B11 (io), 83 I/O60 2B8 (io), 85 I/O61 2B5 (io), 86 I/O62 2B4 (io), 87 I/O63 2B3 (io), 88 I/O64 2B2 (io), 93 I/O65 3B2 (io), 94 I/O66 3B3 (io), 95 I/O67 3B4 (io), 96 I/O68 3B5 (io), 98 I/O69 3B8 (io), 99 I/O70 3B11 (io), 100 I/O71 3B12 (io), 101 I/O72 3B13 (io), 103 I/O73 3A12 (io), 104 I/O74 3A11 (io), 105 I/O75 3A10 (io), 106 I/O76 3A9 (io), 107 I/O77 3A8 (io), 111 I/O78 3A7 (io), 112 I/O79 3A6 (io), 113 I/O80 3A5 (io), 114 I/O81 3A4 (io), 115 I/O82 3A3 (io), 116 I/O83 3A2 (io), 117 I/O84 3A1 (io), 119 I/O85 3D3 (io), 120 I/O86 3D4 (io), 121 I/O87 3D7 (io), 122 I/O88 3D8 (io), 123 I/O89 3D11 (io), 124 I/O90 3D12 (io), 129 I/O91 0D12 (io), 130 I/O92 0D11 (io), 131 I/O93 0D8 (io), 132 I/O94 0D7 (io), 133 I/O95 0D4 (io), 134 I/O96 0D3 (io), 136 I/O97 0A1 (io), 137 I/O98 0A2 (io), 138 I/O99 0A3 (io), 139 I/O100 0A4 (io), 140 I/O101 0A5 (io), 141 I/O102 0A6 (io), 142 I/O103 0A7 (io)
part B pins: 1 TDI (in), 7 GND (power), 12 GND (power), 17 I0/CLK0 (in), 18 VCC (power), 19 GND (power), 20 I1/CLK1 (in), 25 GND (power), 30 GND (power), 36 TCK (in), 37 GND (power), 38 VCC (power), 46 GND (power), 53 VCC (power), 54 GND (power), 55 GND (power), 56 VCC (power), 63 GND (power), 71 VCC (power), 72 GND (power), 73 TMS (in), 79 GND (power), 84 GND (power), 89 I2/CLK2 (in), 90 VCC (power), 91 GND (power), 92 I3/CLK3 (in), 97 GND (power), 102 GND (power), 108 TDO (out), 109 GND (power), 110 VCC (power), 118 GND (power), 125 VCC (power), 126 GND (power), 127 GND (power), 128 VCC (power), 135 GND (power), 143 VCC (power), 144 GND (power)

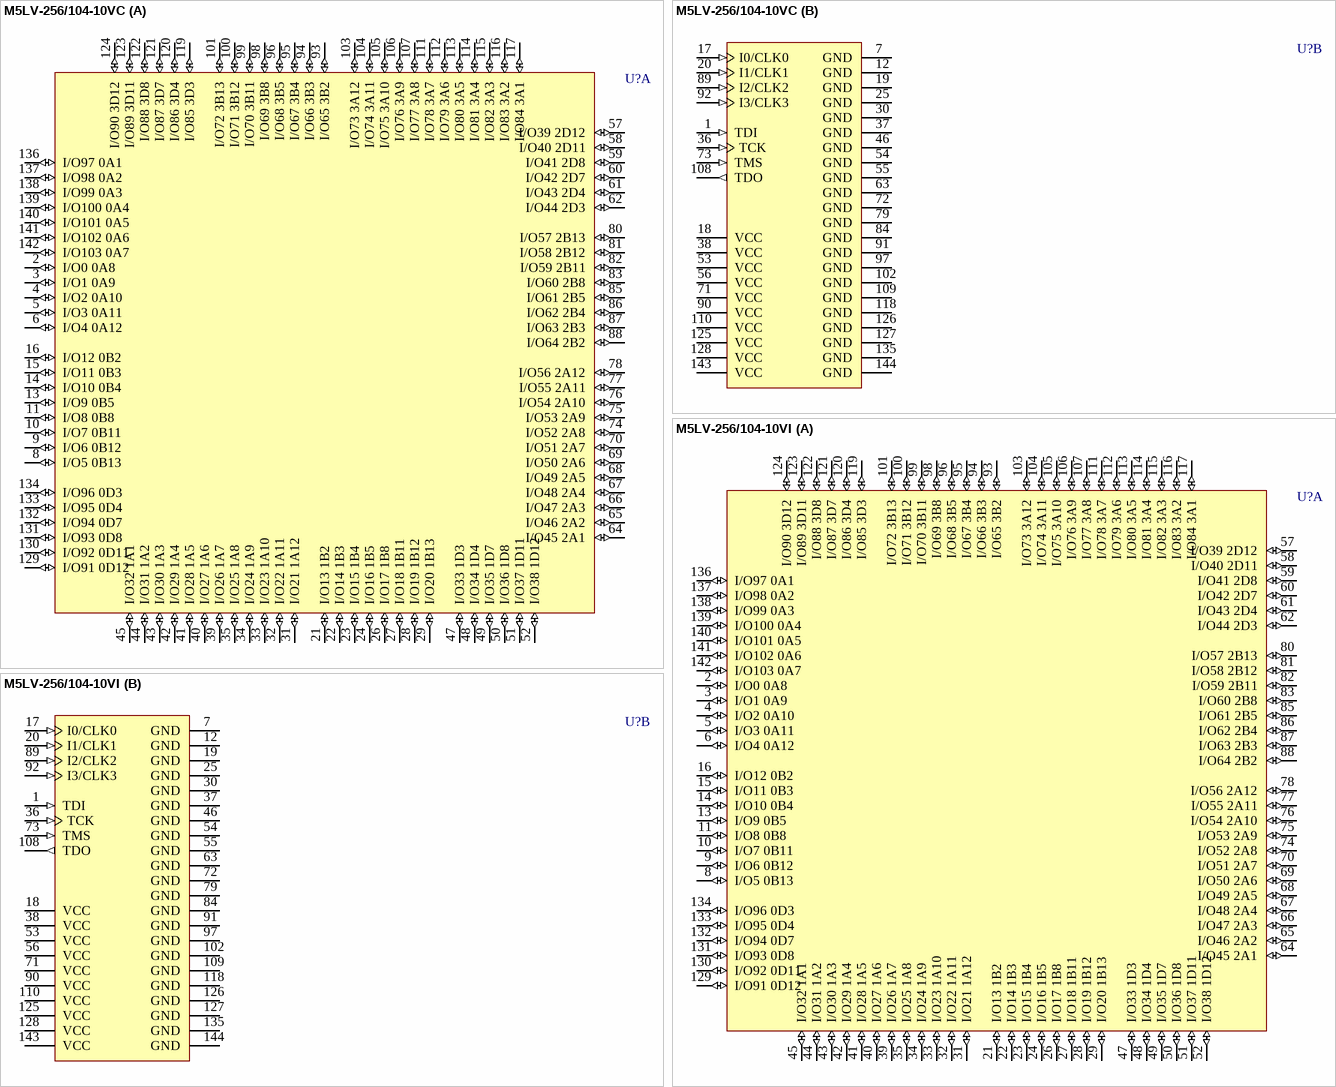
[diagram p182: symbols M5LV-256/104-10VC to M5LV-256/104-10VI]

## M5LV-256/104-10VC
designator U?
High-Density and High-I/O Complex PLD; Published: 23-Sep-2002; LatestRevisionDate: 13-Apr-2006; LatestRevisionNote: IPC-7351 Footprint Added.; DatasheetVersion: Sep-2000; PackageVersion: pkg_32, Aug-2005; PackageReference: TQFP144; Publisher: Altium Limited; PackageDescription: 144-Pin Thin Quad Flat Pack (TQFP144); Code_JEDEC: MS-026-BFB; ComponentLink1Description: Manufacturer Link; ComponentLink1URL: http://www.latticesemi.com/products/mature/index.cfm; ComponentLink2Description: Datasheet; ComponentLink2URL: http://www.latticesemi.com/lit/docs/datasheets/cpld/mach5.pdf
footprint TQFP144_N (Thin QFP, 144-Leads, Body 20x20mm, Pitch 0.5mm, IPC Medium Density)
footprint TQFP144_L (Thin QFP, 144-Leads, Body 20x20mm, Pitch 0.5mm, IPC High Density)
footprint TQFP144_M (Thin QFP, 144-Leads, Body 20x20mm, Pitch 0.5mm, IPC Low Density)
3D model M5LV-TQFP144 (144-Pin Thin Quad Flat Pack (TQFP144))
part A pins: 2 I/O0 0A8 (io), 3 I/O1 0A9 (io), 4 I/O2 0A10 (io), 5 I/O3 0A11 (io), 6 I/O4 0A12 (io), 8 I/O5 0B13 (io), 9 I/O6 0B12 (io), 10 I/O7 0B11 (io), 11 I/O8 0B8 (io), 13 I/O9 0B5 (io), 14 I/O10 0B4 (io), 15 I/O11 0B3 (io), 16 I/O12 0B2 (io), 21 I/O13 1B2 (io), 22 I/O14 1B3 (io), 23 I/O15 1B4 (io), 24 I/O16 1B5 (io), 26 I/O17 1B8 (io), 27 I/O18 1B11 (io), 28 I/O19 1B12 (io), 29 I/O20 1B13 (io), 31 I/O21 1A12 (io), 32 I/O22 1A11 (io), 33 I/O23 1A10 (io), 34 I/O24 1A9 (io), 35 I/O25 1A8 (io), 39 I/O26 1A7 (io), 40 I/O27 1A6 (io), 41 I/O28 1A5 (io), 42 I/O29 1A4 (io), 43 I/O30 1A3 (io), 44 I/O31 1A2 (io), 45 I/O32 1A1 (io), 47 I/O33 1D3 (io), 48 I/O34 1D4 (io), 49 I/O35 1D7 (io), 50 I/O36 1D8 (io), 51 I/O37 1D11 (io), 52 I/O38 1D12 (io), 57 I/O39 2D12 (io), 58 I/O40 2D11 (io), 59 I/O41 2D8 (io), 60 I/O42 2D7 (io), 61 I/O43 2D4 (io), 62 I/O44 2D3 (io), 64 I/O45 2A1 (io), 65 I/O46 2A2 (io), 66 I/O47 2A3 (io), 67 I/O48 2A4 (io), 68 I/O49 2A5 (io), 69 I/O50 2A6 (io), 70 I/O51 2A7 (io), 74 I/O52 2A8 (io), 75 I/O53 2A9 (io), 76 I/O54 2A10 (io), 77 I/O55 2A11 (io), 78 I/O56 2A12 (io), 80 I/O57 2B13 (io), 81 I/O58 2B12 (io), 82 I/O59 2B11 (io), 83 I/O60 2B8 (io), 85 I/O61 2B5 (io), 86 I/O62 2B4 (io), 87 I/O63 2B3 (io), 88 I/O64 2B2 (io), 93 I/O65 3B2 (io), 94 I/O66 3B3 (io), 95 I/O67 3B4 (io), 96 I/O68 3B5 (io), 98 I/O69 3B8 (io), 99 I/O70 3B11 (io), 100 I/O71 3B12 (io), 101 I/O72 3B13 (io), 103 I/O73 3A12 (io), 104 I/O74 3A11 (io), 105 I/O75 3A10 (io), 106 I/O76 3A9 (io), 107 I/O77 3A8 (io), 111 I/O78 3A7 (io), 112 I/O79 3A6 (io), 113 I/O80 3A5 (io), 114 I/O81 3A4 (io), 115 I/O82 3A3 (io), 116 I/O83 3A2 (io), 117 I/O84 3A1 (io), 119 I/O85 3D3 (io), 120 I/O86 3D4 (io), 121 I/O87 3D7 (io), 122 I/O88 3D8 (io), 123 I/O89 3D11 (io), 124 I/O90 3D12 (io), 129 I/O91 0D12 (io), 130 I/O92 0D11 (io), 131 I/O93 0D8 (io), 132 I/O94 0D7 (io), 133 I/O95 0D4 (io), 134 I/O96 0D3 (io), 136 I/O97 0A1 (io), 137 I/O98 0A2 (io), 138 I/O99 0A3 (io), 139 I/O100 0A4 (io), 140 I/O101 0A5 (io), 141 I/O102 0A6 (io), 142 I/O103 0A7 (io)
part B pins: 1 TDI (in), 7 GND (power), 12 GND (power), 17 I0/CLK0 (in), 18 VCC (power), 19 GND (power), 20 I1/CLK1 (in), 25 GND (power), 30 GND (power), 36 TCK (in), 37 GND (power), 38 VCC (power), 46 GND (power), 53 VCC (power), 54 GND (power), 55 GND (power), 56 VCC (power), 63 GND (power), 71 VCC (power), 72 GND (power), 73 TMS (in), 79 GND (power), 84 GND (power), 89 I2/CLK2 (in), 90 VCC (power), 91 GND (power), 92 I3/CLK3 (in), 97 GND (power), 102 GND (power), 108 TDO (out), 109 GND (power), 110 VCC (power), 118 GND (power), 125 VCC (power), 126 GND (power), 127 GND (power), 128 VCC (power), 135 GND (power), 143 VCC (power), 144 GND (power)

## M5LV-256/104-10VI
designator U?
High-Density and High-I/O Complex PLD; Published: 23-Sep-2002; LatestRevisionDate: 13-Apr-2006; LatestRevisionNote: IPC-7351 Footprint Added.; DatasheetVersion: Sep-2000; PackageVersion: pkg_32, Aug-2005; PackageReference: TQFP144; Publisher: Altium Limited; PackageDescription: 144-Pin Thin Quad Flat Pack (TQFP144); Code_JEDEC: MS-026-BFB; ComponentLink1Description: Manufacturer Link; ComponentLink1URL: http://www.latticesemi.com/products/mature/index.cfm; ComponentLink2Description: Datasheet; ComponentLink2URL: http://www.latticesemi.com/lit/docs/datasheets/cpld/mach5.pdf
footprint TQFP144_N (Thin QFP, 144-Leads, Body 20x20mm, Pitch 0.5mm, IPC Medium Density)
footprint TQFP144_L (Thin QFP, 144-Leads, Body 20x20mm, Pitch 0.5mm, IPC High Density)
footprint TQFP144_M (Thin QFP, 144-Leads, Body 20x20mm, Pitch 0.5mm, IPC Low Density)
3D model M5LV-TQFP144 (144-Pin Thin Quad Flat Pack (TQFP144))
part A pins: 2 I/O0 0A8 (io), 3 I/O1 0A9 (io), 4 I/O2 0A10 (io), 5 I/O3 0A11 (io), 6 I/O4 0A12 (io), 8 I/O5 0B13 (io), 9 I/O6 0B12 (io), 10 I/O7 0B11 (io), 11 I/O8 0B8 (io), 13 I/O9 0B5 (io), 14 I/O10 0B4 (io), 15 I/O11 0B3 (io), 16 I/O12 0B2 (io), 21 I/O13 1B2 (io), 22 I/O14 1B3 (io), 23 I/O15 1B4 (io), 24 I/O16 1B5 (io), 26 I/O17 1B8 (io), 27 I/O18 1B11 (io), 28 I/O19 1B12 (io), 29 I/O20 1B13 (io), 31 I/O21 1A12 (io), 32 I/O22 1A11 (io), 33 I/O23 1A10 (io), 34 I/O24 1A9 (io), 35 I/O25 1A8 (io), 39 I/O26 1A7 (io), 40 I/O27 1A6 (io), 41 I/O28 1A5 (io), 42 I/O29 1A4 (io), 43 I/O30 1A3 (io), 44 I/O31 1A2 (io), 45 I/O32 1A1 (io), 47 I/O33 1D3 (io), 48 I/O34 1D4 (io), 49 I/O35 1D7 (io), 50 I/O36 1D8 (io), 51 I/O37 1D11 (io), 52 I/O38 1D12 (io), 57 I/O39 2D12 (io), 58 I/O40 2D11 (io), 59 I/O41 2D8 (io), 60 I/O42 2D7 (io), 61 I/O43 2D4 (io), 62 I/O44 2D3 (io), 64 I/O45 2A1 (io), 65 I/O46 2A2 (io), 66 I/O47 2A3 (io), 67 I/O48 2A4 (io), 68 I/O49 2A5 (io), 69 I/O50 2A6 (io), 70 I/O51 2A7 (io), 74 I/O52 2A8 (io), 75 I/O53 2A9 (io), 76 I/O54 2A10 (io), 77 I/O55 2A11 (io), 78 I/O56 2A12 (io), 80 I/O57 2B13 (io), 81 I/O58 2B12 (io), 82 I/O59 2B11 (io), 83 I/O60 2B8 (io), 85 I/O61 2B5 (io), 86 I/O62 2B4 (io), 87 I/O63 2B3 (io), 88 I/O64 2B2 (io), 93 I/O65 3B2 (io), 94 I/O66 3B3 (io), 95 I/O67 3B4 (io), 96 I/O68 3B5 (io), 98 I/O69 3B8 (io), 99 I/O70 3B11 (io), 100 I/O71 3B12 (io), 101 I/O72 3B13 (io), 103 I/O73 3A12 (io), 104 I/O74 3A11 (io), 105 I/O75 3A10 (io), 106 I/O76 3A9 (io), 107 I/O77 3A8 (io), 111 I/O78 3A7 (io), 112 I/O79 3A6 (io), 113 I/O80 3A5 (io), 114 I/O81 3A4 (io), 115 I/O82 3A3 (io), 116 I/O83 3A2 (io), 117 I/O84 3A1 (io), 119 I/O85 3D3 (io), 120 I/O86 3D4 (io), 121 I/O87 3D7 (io), 122 I/O88 3D8 (io), 123 I/O89 3D11 (io), 124 I/O90 3D12 (io), 129 I/O91 0D12 (io), 130 I/O92 0D11 (io), 131 I/O93 0D8 (io), 132 I/O94 0D7 (io), 133 I/O95 0D4 (io), 134 I/O96 0D3 (io), 136 I/O97 0A1 (io), 137 I/O98 0A2 (io), 138 I/O99 0A3 (io), 139 I/O100 0A4 (io), 140 I/O101 0A5 (io), 141 I/O102 0A6 (io), 142 I/O103 0A7 (io)
part B pins: 1 TDI (in), 7 GND (power), 12 GND (power), 17 I0/CLK0 (in), 18 VCC (power), 19 GND (power), 20 I1/CLK1 (in), 25 GND (power), 30 GND (power), 36 TCK (in), 37 GND (power), 38 VCC (power), 46 GND (power), 53 VCC (power), 54 GND (power), 55 GND (power), 56 VCC (power), 63 GND (power), 71 VCC (power), 72 GND (power), 73 TMS (in), 79 GND (power), 84 GND (power), 89 I2/CLK2 (in), 90 VCC (power), 91 GND (power), 92 I3/CLK3 (in), 97 GND (power), 102 GND (power), 108 TDO (out), 109 GND (power), 110 VCC (power), 118 GND (power), 125 VCC (power), 126 GND (power), 127 GND (power), 128 VCC (power), 135 GND (power), 143 VCC (power), 144 GND (power)

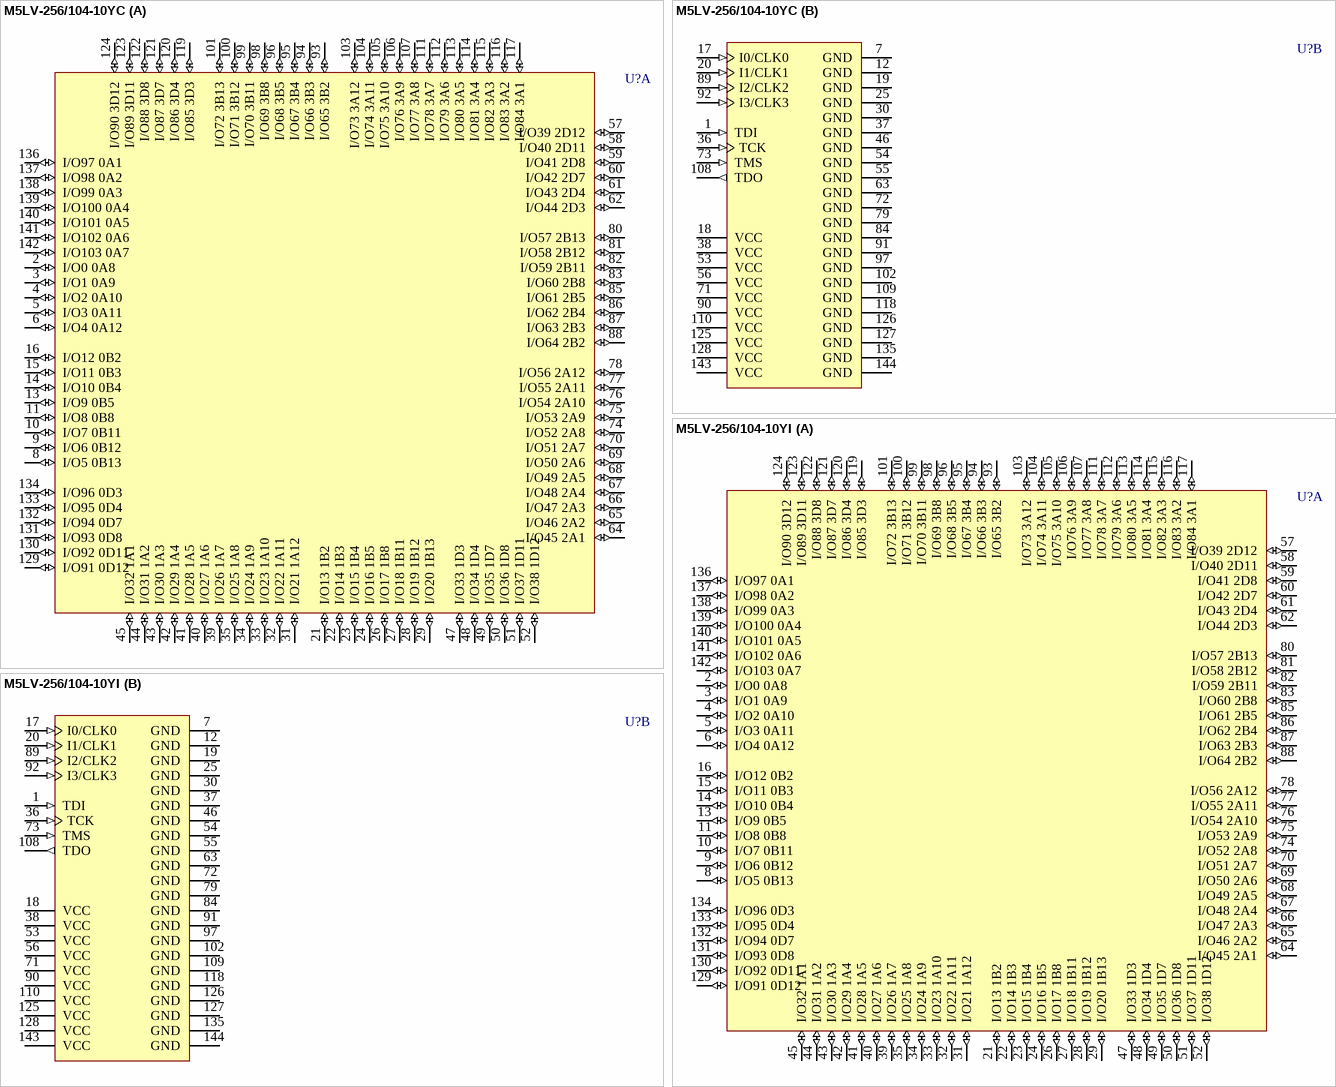
[diagram p183: symbols M5LV-256/104-10YC to M5LV-256/104-10YI]

## M5LV-256/104-10YC
designator U?
High-Density and High-I/O Complex PLD; Published: 23-Sep-2002; LatestRevisionDate: 13-Apr-2006; LatestRevisionNote: IPC-7351 Footprint Added.; DatasheetVersion: Sep-2000; PackageVersion: pkg_32, Aug-2005; PackageReference: PQFP144; Publisher: Altium Limited; PackageDescription: 144-Pin Quad Flat Pack 0.65 mm Pitch; Code_IPC: QFP65P3120X3120-144; ComponentLink1Description: Manufacturer Link; ComponentLink1URL: http://www.latticesemi.com/products/mature/index.cfm; ComponentLink2Description: Datasheet; ComponentLink2URL: http://www.latticesemi.com/lit/docs/datasheets/cpld/mach5.pdf
footprint PQFP144_N (QFP, 144-Leads, Body 28 x 28mm, Pitch 0.65mm, IPC Medium Density)
footprint PQFP144_L (QFP, 144-Leads, Body 28 x 28mm, Pitch 0.65mm, IPC High Density)
footprint PQFP144_M (QFP, 144-Leads, Body 28 x 28mm, Pitch 0.65mm, IPC Low Density)
3D model M5LV-PQFP144 (144-Pin Quad Flat Pack 0.65 mm Pitch)
part A pins: 2 I/O0 0A8 (io), 3 I/O1 0A9 (io), 4 I/O2 0A10 (io), 5 I/O3 0A11 (io), 6 I/O4 0A12 (io), 8 I/O5 0B13 (io), 9 I/O6 0B12 (io), 10 I/O7 0B11 (io), 11 I/O8 0B8 (io), 13 I/O9 0B5 (io), 14 I/O10 0B4 (io), 15 I/O11 0B3 (io), 16 I/O12 0B2 (io), 21 I/O13 1B2 (io), 22 I/O14 1B3 (io), 23 I/O15 1B4 (io), 24 I/O16 1B5 (io), 26 I/O17 1B8 (io), 27 I/O18 1B11 (io), 28 I/O19 1B12 (io), 29 I/O20 1B13 (io), 31 I/O21 1A12 (io), 32 I/O22 1A11 (io), 33 I/O23 1A10 (io), 34 I/O24 1A9 (io), 35 I/O25 1A8 (io), 39 I/O26 1A7 (io), 40 I/O27 1A6 (io), 41 I/O28 1A5 (io), 42 I/O29 1A4 (io), 43 I/O30 1A3 (io), 44 I/O31 1A2 (io), 45 I/O32 1A1 (io), 47 I/O33 1D3 (io), 48 I/O34 1D4 (io), 49 I/O35 1D7 (io), 50 I/O36 1D8 (io), 51 I/O37 1D11 (io), 52 I/O38 1D12 (io), 57 I/O39 2D12 (io), 58 I/O40 2D11 (io), 59 I/O41 2D8 (io), 60 I/O42 2D7 (io), 61 I/O43 2D4 (io), 62 I/O44 2D3 (io), 64 I/O45 2A1 (io), 65 I/O46 2A2 (io), 66 I/O47 2A3 (io), 67 I/O48 2A4 (io), 68 I/O49 2A5 (io), 69 I/O50 2A6 (io), 70 I/O51 2A7 (io), 74 I/O52 2A8 (io), 75 I/O53 2A9 (io), 76 I/O54 2A10 (io), 77 I/O55 2A11 (io), 78 I/O56 2A12 (io), 80 I/O57 2B13 (io), 81 I/O58 2B12 (io), 82 I/O59 2B11 (io), 83 I/O60 2B8 (io), 85 I/O61 2B5 (io), 86 I/O62 2B4 (io), 87 I/O63 2B3 (io), 88 I/O64 2B2 (io), 93 I/O65 3B2 (io), 94 I/O66 3B3 (io), 95 I/O67 3B4 (io), 96 I/O68 3B5 (io), 98 I/O69 3B8 (io), 99 I/O70 3B11 (io), 100 I/O71 3B12 (io), 101 I/O72 3B13 (io), 103 I/O73 3A12 (io), 104 I/O74 3A11 (io), 105 I/O75 3A10 (io), 106 I/O76 3A9 (io), 107 I/O77 3A8 (io), 111 I/O78 3A7 (io), 112 I/O79 3A6 (io), 113 I/O80 3A5 (io), 114 I/O81 3A4 (io), 115 I/O82 3A3 (io), 116 I/O83 3A2 (io), 117 I/O84 3A1 (io), 119 I/O85 3D3 (io), 120 I/O86 3D4 (io), 121 I/O87 3D7 (io), 122 I/O88 3D8 (io), 123 I/O89 3D11 (io), 124 I/O90 3D12 (io), 129 I/O91 0D12 (io), 130 I/O92 0D11 (io), 131 I/O93 0D8 (io), 132 I/O94 0D7 (io), 133 I/O95 0D4 (io), 134 I/O96 0D3 (io), 136 I/O97 0A1 (io), 137 I/O98 0A2 (io), 138 I/O99 0A3 (io), 139 I/O100 0A4 (io), 140 I/O101 0A5 (io), 141 I/O102 0A6 (io), 142 I/O103 0A7 (io)
part B pins: 1 TDI (in), 7 GND (power), 12 GND (power), 17 I0/CLK0 (in), 18 VCC (power), 19 GND (power), 20 I1/CLK1 (in), 25 GND (power), 30 GND (power), 36 TCK (in), 37 GND (power), 38 VCC (power), 46 GND (power), 53 VCC (power), 54 GND (power), 55 GND (power), 56 VCC (power), 63 GND (power), 71 VCC (power), 72 GND (power), 73 TMS (in), 79 GND (power), 84 GND (power), 89 I2/CLK2 (in), 90 VCC (power), 91 GND (power), 92 I3/CLK3 (in), 97 GND (power), 102 GND (power), 108 TDO (out), 109 GND (power), 110 VCC (power), 118 GND (power), 125 VCC (power), 126 GND (power), 127 GND (power), 128 VCC (power), 135 GND (power), 143 VCC (power), 144 GND (power)

## M5LV-256/104-10YI
designator U?
High-Density and High-I/O Complex PLD; Published: 23-Sep-2002; LatestRevisionDate: 13-Apr-2006; LatestRevisionNote: IPC-7351 Footprint Added.; DatasheetVersion: Sep-2000; PackageVersion: pkg_32, Aug-2005; PackageReference: PQFP144; Publisher: Altium Limited; PackageDescription: 144-Pin Quad Flat Pack 0.65 mm Pitch; Code_IPC: QFP65P3120X3120-144; ComponentLink1Description: Manufacturer Link; ComponentLink1URL: http://www.latticesemi.com/products/mature/index.cfm; ComponentLink2Description: Datasheet; ComponentLink2URL: http://www.latticesemi.com/lit/docs/datasheets/cpld/mach5.pdf
footprint PQFP144_N (QFP, 144-Leads, Body 28 x 28mm, Pitch 0.65mm, IPC Medium Density)
footprint PQFP144_L (QFP, 144-Leads, Body 28 x 28mm, Pitch 0.65mm, IPC High Density)
footprint PQFP144_M (QFP, 144-Leads, Body 28 x 28mm, Pitch 0.65mm, IPC Low Density)
3D model M5LV-PQFP144 (144-Pin Quad Flat Pack 0.65 mm Pitch)
part A pins: 2 I/O0 0A8 (io), 3 I/O1 0A9 (io), 4 I/O2 0A10 (io), 5 I/O3 0A11 (io), 6 I/O4 0A12 (io), 8 I/O5 0B13 (io), 9 I/O6 0B12 (io), 10 I/O7 0B11 (io), 11 I/O8 0B8 (io), 13 I/O9 0B5 (io), 14 I/O10 0B4 (io), 15 I/O11 0B3 (io), 16 I/O12 0B2 (io), 21 I/O13 1B2 (io), 22 I/O14 1B3 (io), 23 I/O15 1B4 (io), 24 I/O16 1B5 (io), 26 I/O17 1B8 (io), 27 I/O18 1B11 (io), 28 I/O19 1B12 (io), 29 I/O20 1B13 (io), 31 I/O21 1A12 (io), 32 I/O22 1A11 (io), 33 I/O23 1A10 (io), 34 I/O24 1A9 (io), 35 I/O25 1A8 (io), 39 I/O26 1A7 (io), 40 I/O27 1A6 (io), 41 I/O28 1A5 (io), 42 I/O29 1A4 (io), 43 I/O30 1A3 (io), 44 I/O31 1A2 (io), 45 I/O32 1A1 (io), 47 I/O33 1D3 (io), 48 I/O34 1D4 (io), 49 I/O35 1D7 (io), 50 I/O36 1D8 (io), 51 I/O37 1D11 (io), 52 I/O38 1D12 (io), 57 I/O39 2D12 (io), 58 I/O40 2D11 (io), 59 I/O41 2D8 (io), 60 I/O42 2D7 (io), 61 I/O43 2D4 (io), 62 I/O44 2D3 (io), 64 I/O45 2A1 (io), 65 I/O46 2A2 (io), 66 I/O47 2A3 (io), 67 I/O48 2A4 (io), 68 I/O49 2A5 (io), 69 I/O50 2A6 (io), 70 I/O51 2A7 (io), 74 I/O52 2A8 (io), 75 I/O53 2A9 (io), 76 I/O54 2A10 (io), 77 I/O55 2A11 (io), 78 I/O56 2A12 (io), 80 I/O57 2B13 (io), 81 I/O58 2B12 (io), 82 I/O59 2B11 (io), 83 I/O60 2B8 (io), 85 I/O61 2B5 (io), 86 I/O62 2B4 (io), 87 I/O63 2B3 (io), 88 I/O64 2B2 (io), 93 I/O65 3B2 (io), 94 I/O66 3B3 (io), 95 I/O67 3B4 (io), 96 I/O68 3B5 (io), 98 I/O69 3B8 (io), 99 I/O70 3B11 (io), 100 I/O71 3B12 (io), 101 I/O72 3B13 (io), 103 I/O73 3A12 (io), 104 I/O74 3A11 (io), 105 I/O75 3A10 (io), 106 I/O76 3A9 (io), 107 I/O77 3A8 (io), 111 I/O78 3A7 (io), 112 I/O79 3A6 (io), 113 I/O80 3A5 (io), 114 I/O81 3A4 (io), 115 I/O82 3A3 (io), 116 I/O83 3A2 (io), 117 I/O84 3A1 (io), 119 I/O85 3D3 (io), 120 I/O86 3D4 (io), 121 I/O87 3D7 (io), 122 I/O88 3D8 (io), 123 I/O89 3D11 (io), 124 I/O90 3D12 (io), 129 I/O91 0D12 (io), 130 I/O92 0D11 (io), 131 I/O93 0D8 (io), 132 I/O94 0D7 (io), 133 I/O95 0D4 (io), 134 I/O96 0D3 (io), 136 I/O97 0A1 (io), 137 I/O98 0A2 (io), 138 I/O99 0A3 (io), 139 I/O100 0A4 (io), 140 I/O101 0A5 (io), 141 I/O102 0A6 (io), 142 I/O103 0A7 (io)
part B pins: 1 TDI (in), 7 GND (power), 12 GND (power), 17 I0/CLK0 (in), 18 VCC (power), 19 GND (power), 20 I1/CLK1 (in), 25 GND (power), 30 GND (power), 36 TCK (in), 37 GND (power), 38 VCC (power), 46 GND (power), 53 VCC (power), 54 GND (power), 55 GND (power), 56 VCC (power), 63 GND (power), 71 VCC (power), 72 GND (power), 73 TMS (in), 79 GND (power), 84 GND (power), 89 I2/CLK2 (in), 90 VCC (power), 91 GND (power), 92 I3/CLK3 (in), 97 GND (power), 102 GND (power), 108 TDO (out), 109 GND (power), 110 VCC (power), 118 GND (power), 125 VCC (power), 126 GND (power), 127 GND (power), 128 VCC (power), 135 GND (power), 143 VCC (power), 144 GND (power)

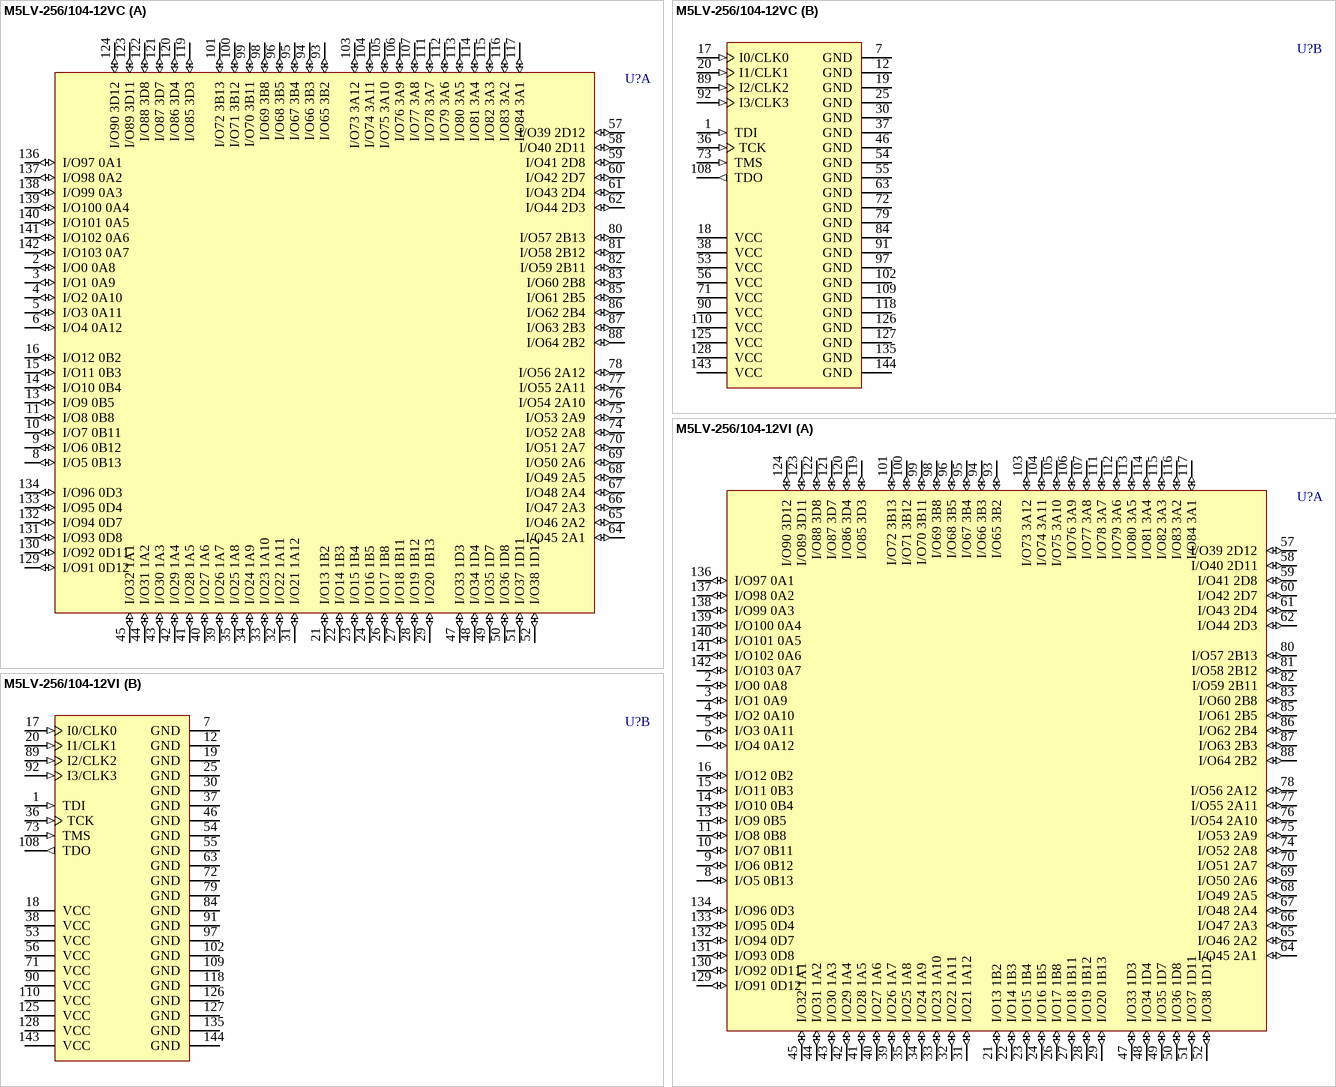
[diagram p184: symbols M5LV-256/104-12VC to M5LV-256/104-12VI]